# Altium integrated library Xilinx XC4000XL.IntLib: 450 symbols (part 30 of 58)
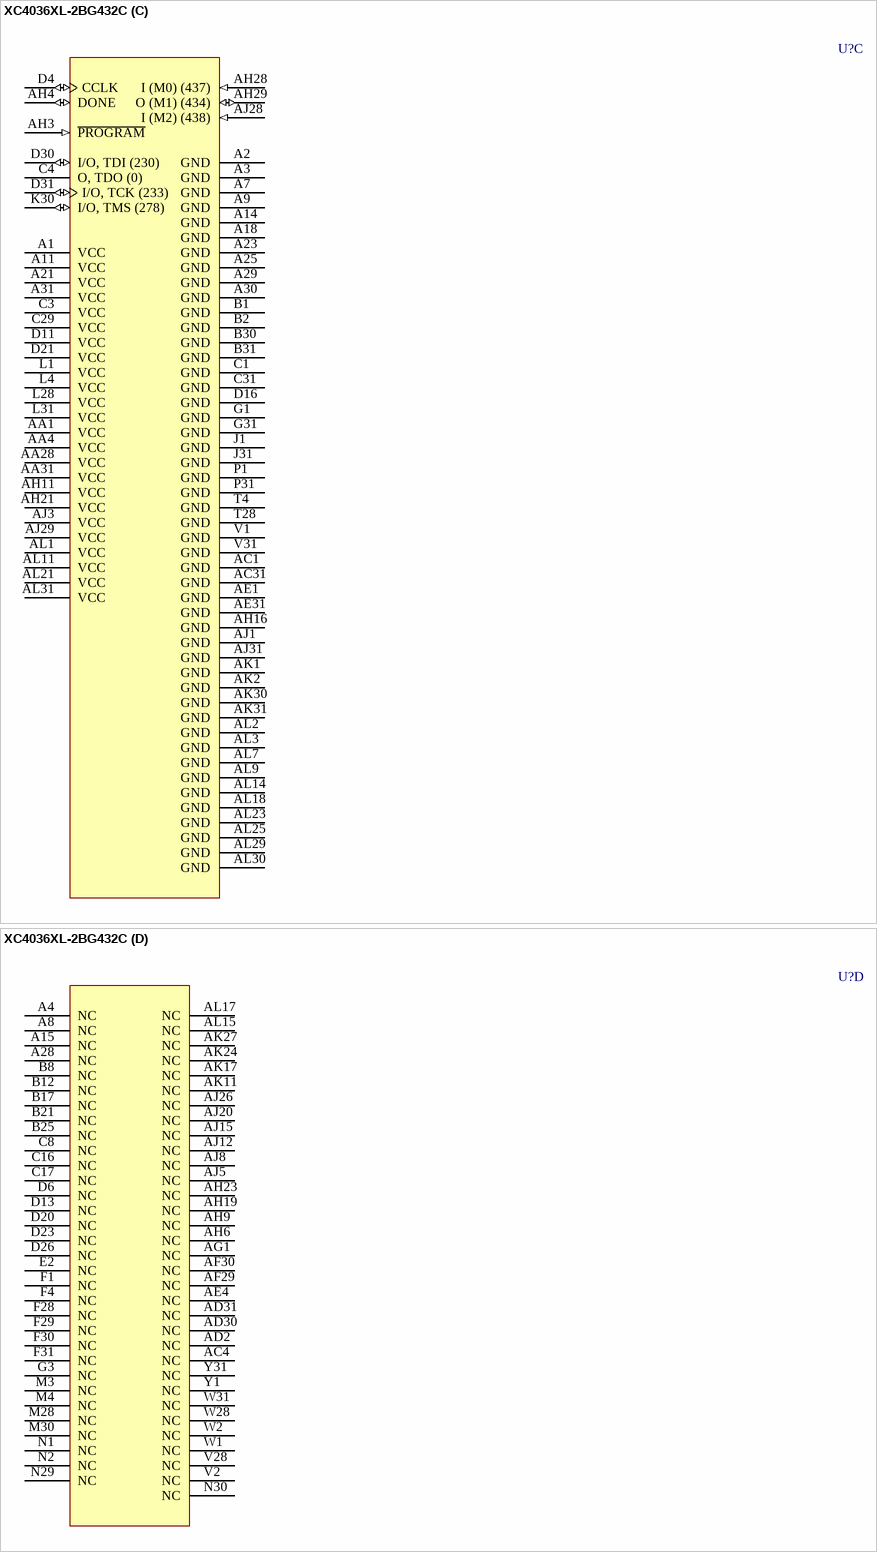
[diagram p427: symbol XC4036XL-2BG432C]

## XC4036XL-2BG432C
designator U?
XC4000XL FPGA, 288 I/Os, 432-Ball BGA, Speed Grade 2, Commercial Grade; Published: 28-Feb-2003; LatestRevisionDate: 13-Apr-2006; LatestRevisionNote: IPC-7351 Footprint Added.; DatasheetVersion: ver1.6, May-1999; PackageVersion: ver1.1, Apr-2001; PackageReference: BG432; Publisher: Altium Limited; PackageDescription: 432-Ball Metal Ball Grid Array (BG432); Supplier 1: Digi-Key; Supplier Part Number 1: XC4036XL-2BG432C-ND; Code_JEDEC: MO-192-BAU-1 (Depopulated); ComponentLink1Description: XC4000XL Datasheet; ComponentLink1URL: http://www.xilinx.com/support/documentation/data_sheets/4000.pdf; ComponentLink2Description: Discontinuation Notice; ComponentLink2URL: http://www.xilinx.com/support/documentation/customer_notices/pdn2004-21.pdf; ComponentLink3Description: BG432 Package Drawing; ComponentLink3URL: http://www.xilinx.com/support/documentation/package_specs/bg432.pdf; ComponentLink4Description: XC4000 Documents; ComponentLink4URL: http://www.xilinx.com/support/documentation/xc4000.htm; ComponentLink5Description: Xilinx.com Home; ComponentLink5URL: http://www.xilinx.com
footprint BG432 (BGA, 432-Leads, Body 40x40mm, Pitch 1.27mm)
part A pins: A5 I/O (CS1, A2) (20) (io), A6 I/O (29) (io), A10 I/O (59) (io), A12 I/O (77) (io), A13 I/O (A5) (89) (io), A16 I/O (A7) (107) (io), A17 I/O (A9) (113) (io), A19 I/O (125) (io), A20 I/O (137) (io), A22 I/O (149) (io), A24 I/O (161) (io), A26 I/O (176) (io), A27 I/O (188) (io), AA29 I/O (368) (io), AA30 I/O (365) (io), AB28 I/O (380) (io), AB29 I/O (377) (io), AB30 I/O (374) (io), AB31 I/O (371) (io), AC28 I/O (389) (io), AC29 I/O (386) (io), AC30 I/O (383) (io), AD28 I/O (395) (io), AD29 I/O (392) (io), AE28 I/O (407) (io), AE29 I/O (401) (io), AE30 I/O (398) (io), AF28 I/O (413) (io), AF31 I/O (404) (io), AG28 I/O (425) (io), AG29 I/O (419) (io), AG30 I/O (416) (io), AG31 I/O (410) (io), AH30 I/O (428) (io), AH31 I/O (422) (io), AJ30 I/O, GCK2 (431) (io), AK29 I/O, GCK3 (439) (io), B3 I/O (A0, ~{WS}) (2) (io), B4 I/O (8) (io), B5 I/O (14) (io), B6 I/O (26) (io), B7 I/O (38) (io), B9 I/O (50) (io), B10 I/O (56) (io), B11 I/O (68) (io), B13 I/O (83) (io), B14 I/O (92) (io), B15 I/O (A20) (101) (io), B16 I/O (A6) (104) (io), B18 I/O (122) (io), B19 I/O (A10) (128) (io), B20 I/O (140) (io), B22 I/O (152) (io), B23 I/O (158) (io), B24 I/O (170) (io), B26 I/O (A13) (185) (io), B27 I/O (197) (io), B28 I/O (203) (io), B29 I/O (209) (io), C5 I/O (11) (io), C6 I/O (17) (io), C7 I/O (35) (io), C9 I/O (47) (io), C10 I/O (53) (io), C11 I/O (62) (io), C12 I/O (71) (io), C13 I/O (74) (io), C14 I/O (A4) (86) (io), C15 I/O (A21) (98) (io), C18 I/O (A19) (116) (io), C19 I/O (A11) (131) (io), C20 I/O (143) (io), C21 I/O (146) (io), C22 I/O (155) (io), C23 I/O (167) (io), C24 I/O (173) (io), C25 I/O (179) (io), C26 I/O (194) (io), C27 I/O (200) (io), C28 I/O (A14) (212) (io), C30 I/O (A17) (221) (io), D7 I/O (A3) (23) (io), D8 I/O (32) (io), D9 I/O (41) (io), D10 I/O (44) (io), D12 I/O (65) (io), D14 I/O (80) (io), D15 I/O (95) (io), D17 I/O (A8) (110) (io), D18 I/O (A18) (119) (io), D19 I/O (134) (io), D22 I/O (164) (io), D24 I/O (A12) (182) (io), D25 I/O (191) (io), D27 I/O (206) (io), D28 I/O, GCK8 (A15) (215) (io), D29 I/O, GCK1 (A16) (218) (io), E28 I/O (224) (io), E29 I/O (227) (io), E30 I/O (236) (io), E31 I/O (239) (io), G28 I/O (242) (io), G29 I/O (245) (io), G30 I/O (254) (io), H28 I/O (248) (io), H29 I/O (251) (io), H30 I/O (257) (io), H31 I/O (266) (io), J28 I/O (260) (io), J29 I/O (263) (io), J30 I/O (269) (io), K28 I/O (272) (io), K29 I/O (275) (io), K31 I/O (281) (io), L29 I/O (284) (io), L30 I/O (287) (io), M29 I/O (290) (io), M31 I/O (293) (io), N28 I/O (299) (io), N31 I/O (296) (io), P28 I/O (305) (io), P29 I/O (308) (io), P30 I/O (302) (io), R28 I/O (317) (io), R29 I/O (320) (io), R30 I/O (314) (io), R31 I/O (311) (io), T29 I/O (329) (io), T30 I/O (326) (io), T31 I/O (323) (io), U28 I/O (338) (io), U29 I/O (341) (io), U30 I/O (335) (io), U31 I/O (332) (io), V29 I/O (347) (io), V30 I/O (344) (io), W29 I/O (353) (io), W30 I/O (350) (io), Y28 I/O (362) (io), Y29 I/O (359) (io), Y30 I/O (356) (io)
part B pins: AA2 I/O (D5) (721) (io), AA3 I/O (718) (io), AB1 I/O (715) (io), AB2 I/O (712) (io), AB3 I/O (709) (io), AB4 I/O (706) (io), AC2 I/O (703) (io), AC3 I/O (697) (io), AD1 I/O (700) (io), AD3 I/O (691) (io), AD4 I/O (688) (io), AE2 I/O (694) (io), AE3 I/O (679) (io), AF1 I/O (D6) (685) (io), AF2 I/O (682) (io), AF3 I/O (673) (io), AF4 I/O (670) (io), AG2 I/O (676) (io), AG3 I/O (661) (io), AG4 I/O, GCK5 (658) (io), AH1 I/O (667) (io), AH2 I/O (664) (io), AH5 I/O (646) (io), AH7 I/O (631) (io), AH8 I/O (622) (io), AH10 I/O (604) (io), AH12 I/O (583) (io), AH13 I/O (574) (io), AH14 I/O (559) (io), AH15 I/O (550) (io), AH17 I/O (535) (io), AH18 I/O (520) (io), AH20 I/O (505) (io), AH22 I/O (484) (io), AH24 I/O (469) (io), AH25 I/O (460) (io), AH26 I/O (~{LDC}) (454) (io), AH27 I/O (HDC) (442) (io), AJ2 I/O (D7) (655) (io), AJ4 I/O, GCK4 (652) (io), AJ6 I/O (634) (io), AJ7 I/O (619) (io), AJ9 I/O (607) (io), AJ10 I/O (595) (io), AJ11 I/O (586) (io), AJ13 I/O (571) (io), AJ14 I/O (556) (io), AJ16 I/O (541) (io), AJ17 I/O (538) (io), AJ18 I/O (526) (io), AJ19 I/O (514) (io), AJ21 I/O (502) (io), AJ22 I/O (493) (io), AJ23 I/O (487) (io), AJ24 I/O (478) (io), AJ25 I/O (472) (io), AJ27 I/O (448) (io), AK3 I/O (649) (io), AK4 I/O (643) (io), AK5 I/O (637) (io), AK6 I/O (625) (io), AK7 I/O (613) (io), AK8 I/O (610) (io), AK9 I/O (598) (io), AK10 I/O (592) (io), AK12 I/O (580) (io), AK13 I/O (568) (io), AK14 I/O (562) (io), AK15 I/O (553) (io), AK16 I/O (~{INIT}) (544) (io), AK18 I/O (532) (io), AK19 I/O (523) (io), AK20 I/O (511) (io), AK21 I/O (508) (io), AK22 I/O (496) (io), AK23 I/O (490) (io), AK25 I/O (475) (io), AK26 I/O (463) (io), AK28 I/O (445) (io), AL4 I/O (640) (io), AL5 I/O (628) (io), AL6 I/O (616) (io), AL8 I/O (601) (io), AL10 I/O (589) (io), AL12 I/O (577) (io), AL13 I/O (565) (io), AL16 I/O (547) (io), AL19 I/O (529) (io), AL20 I/O (517) (io), AL22 I/O (499) (io), AL24 I/O (481) (io), AL26 I/O (466) (io), AL27 I/O (457) (io), AL28 I/O (451) (io), C2 I/O (D0, DIN) (865) (io), D1 I/O (856) (io), D2 I/O (862) (io), D3 I/O, GCK6 (DOUT) (868) (io), D5 I/O, GCK7 (A1) (5) (io), E1 I/O (850) (io), E3 I/O (853) (io), E4 I/O (859) (io), F2 I/O (~{RCLK}, RDY/~{BUSY}) (844) (io), F3 I/O (847) (io), G2 I/O (838) (io), G4 I/O (D1) (841) (io), H1 I/O (826) (io), H2 I/O (829) (io), H3 I/O (832) (io), H4 I/O (835) (io), J2 I/O (817) (io), J3 I/O (820) (io), J4 I/O (823) (io), K1 I/O (805) (io), K2 I/O (808) (io), K3 I/O (811) (io), K4 I/O (814) (io), L2 I/O (D2) (799) (io), L3 I/O (802) (io), M1 I/O (793) (io), M2 I/O (796) (io), N3 I/O (787) (io), N4 I/O (790) (io), P2 I/O (778) (io), P3 I/O (781) (io), P4 I/O (784) (io), R1 I/O (~{RS}) (766) (io), R2 I/O (769) (io), R3 I/O (775) (io), R4 I/O (772) (io), T1 I/O (D4) (757) (io), T2 I/O (760) (io), T3 I/O (D3) (763) (io), U1 I/O (745) (io), U2 I/O (748) (io), U3 I/O (754) (io), U4 I/O (751) (io), V3 I/O (742) (io), V4 I/O (739) (io), W3 I/O (736) (io), W4 I/O (733) (io), Y2 I/O (~{CS0}) (724) (io), Y3 I/O (730) (io), Y4 I/O (727) (io)
part C pins: A1 VCC (power), A2 GND (power), A3 GND (power), A7 GND (power), A9 GND (power), A11 VCC (power), A14 GND (power), A18 GND (power), A21 VCC (power), A23 GND (power), A25 GND (power), A29 GND (power), A30 GND (power), A31 VCC (power), AA1 VCC (power), AA4 VCC (power), AA28 VCC (power), AA31 VCC (power), AC1 GND (power), AC31 GND (power), AE1 GND (power), AE31 GND (power), AH3 ~{PROGRAM} (in), AH4 DONE (io), AH11 VCC (power), AH16 GND (power), AH21 VCC (power), AH28 I (M0) (437) (in), AH29 O (M1) (434) (io), AJ1 GND (power), AJ3 VCC (power), AJ28 I (M2) (438) (in), AJ29 VCC (power), AJ31 GND (power), AK1 GND (power), AK2 GND (power), AK30 GND (power), AK31 GND (power), AL1 VCC (power), AL2 GND (power), AL3 GND (power), AL7 GND (power), AL9 GND (power), AL11 VCC (power), AL14 GND (power), AL18 GND (power), AL21 VCC (power), AL23 GND (power), AL25 GND (power), AL29 GND (power), AL30 GND (power), AL31 VCC (power), B1 GND (power), B2 GND (power), B30 GND (power), B31 GND (power), C1 GND (power), C3 VCC (power), C4 O, TDO (0) (hiz), C29 VCC (power), C31 GND (power), D4 CCLK (io), D11 VCC (power), D16 GND (power), D21 VCC (power), D30 I/O, TDI (230) (io), D31 I/O, TCK (233) (io), G1 GND (power), G31 GND (power), J1 GND (power), J31 GND (power), K30 I/O, TMS (278) (io), L1 VCC (power), L4 VCC (power), L28 VCC (power), L31 VCC (power), P1 GND (power), P31 GND (power), T4 GND (power), T28 GND (power), V1 GND (power), V31 GND (power)
part D pins: A4 NC, A8 NC, A15 NC, A28 NC, AC4 NC, AD2 NC, AD30 NC, AD31 NC, AE4 NC, AF29 NC, AF30 NC, AG1 NC, AH6 NC, AH9 NC, AH19 NC, AH23 NC, AJ5 NC, AJ8 NC, AJ12 NC, AJ15 NC, AJ20 NC, AJ26 NC, AK11 NC, AK17 NC, AK24 NC, AK27 NC, AL15 NC, AL17 NC, B8 NC, B12 NC, B17 NC, B21 NC, B25 NC, C8 NC, C16 NC, C17 NC, D6 NC, D13 NC, D20 NC, D23 NC, D26 NC, E2 NC, F1 NC, F4 NC, F28 NC, F29 NC, F30 NC, F31 NC, G3 NC, M3 NC, M4 NC, M28 NC, M30 NC, N1 NC, N2 NC, N29 NC, N30 NC, V2 NC, V28 NC, W1 NC, W2 NC, W28 NC, W31 NC, Y1 NC, Y31 NC

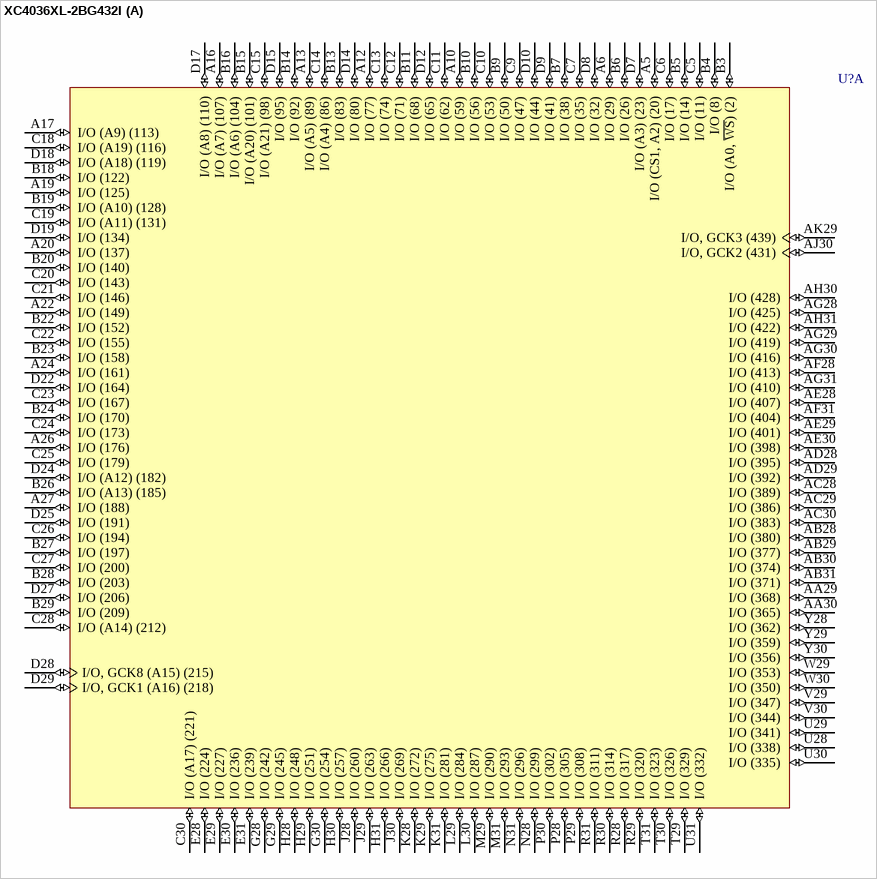
[diagram p274: symbol XC4036XL-2BG432I]

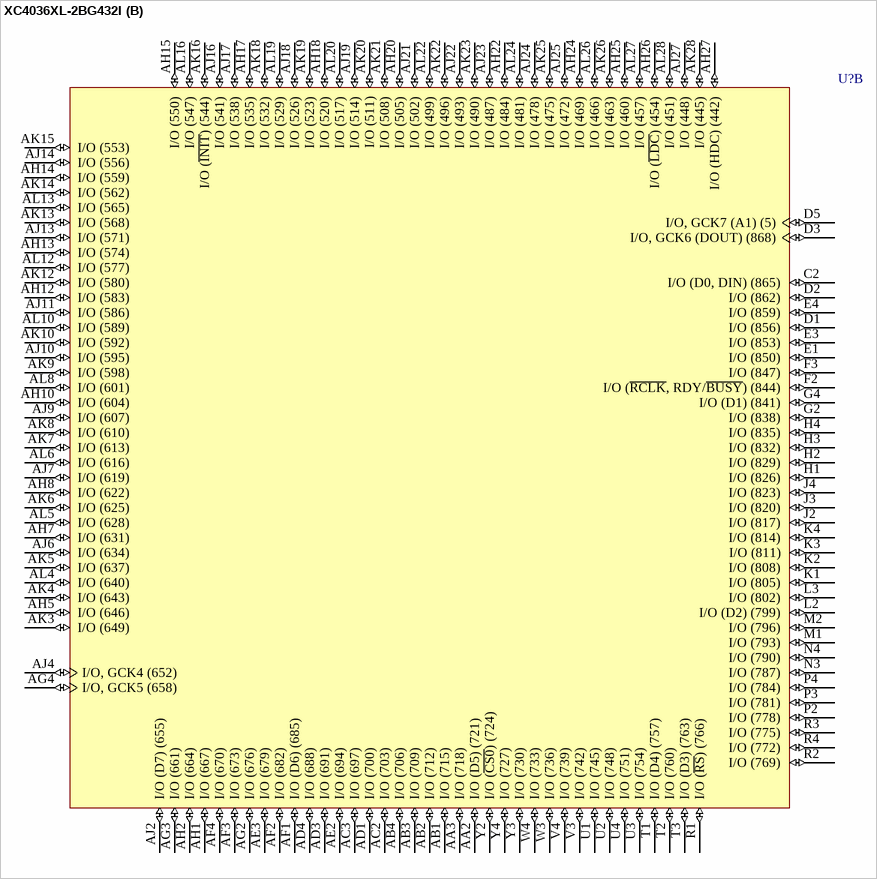
[diagram p275: symbol XC4036XL-2BG432I]

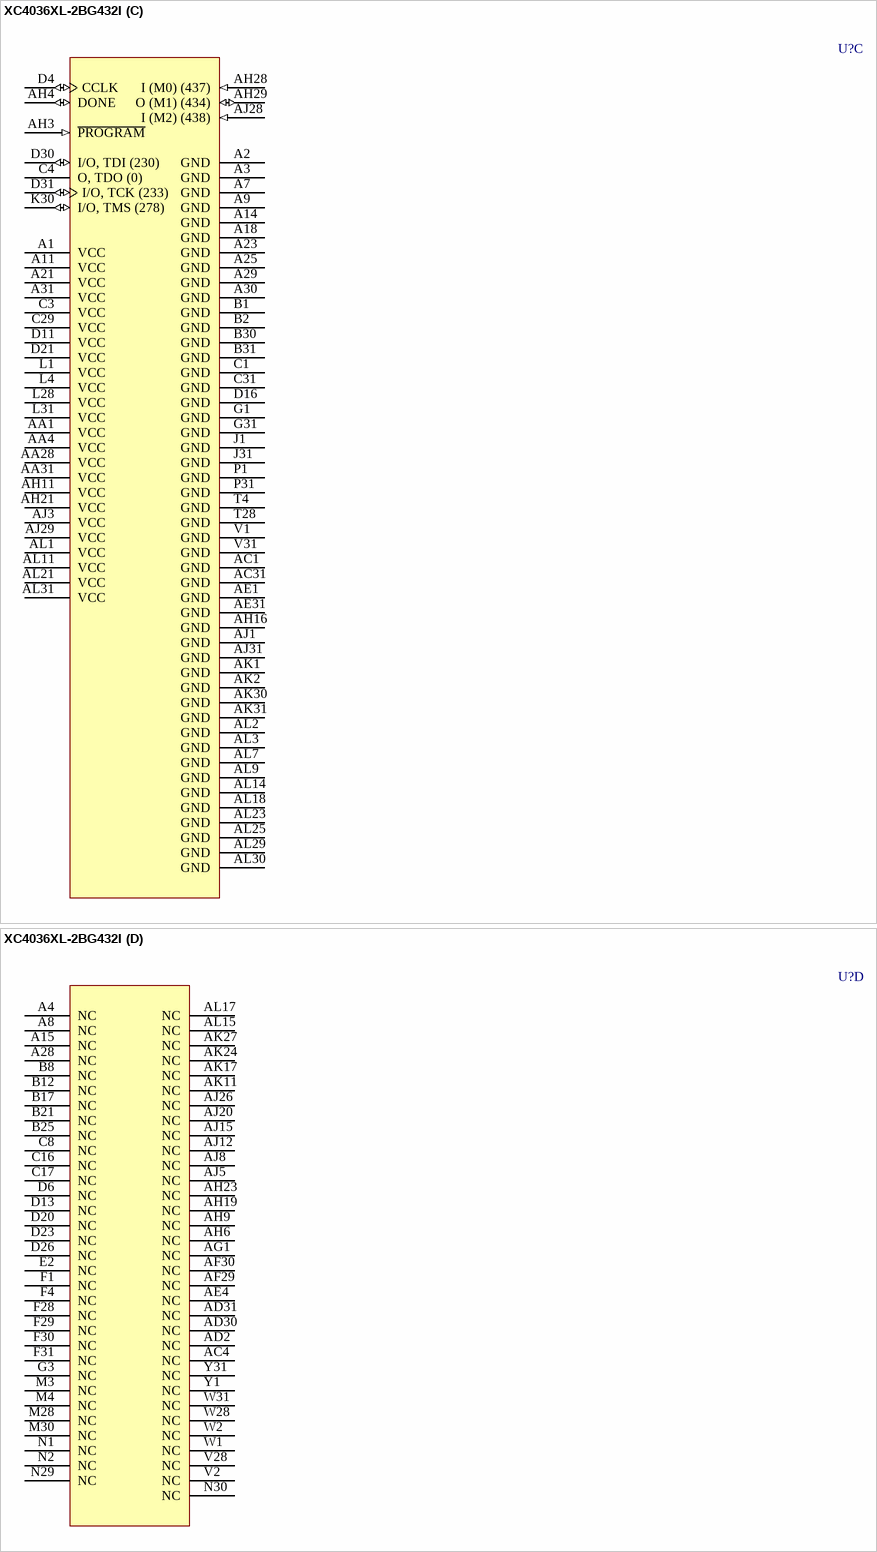
[diagram p276: symbol XC4036XL-2BG432I]

## XC4036XL-2BG432I
designator U?
XC4000XL FPGA, 288 I/Os, 432-Ball BGA, Speed Grade 2, Industrial Grade; Published: 28-Feb-2003; LatestRevisionDate: 13-Apr-2006; LatestRevisionNote: IPC-7351 Footprint Added.; DatasheetVersion: ver1.6, May-1999; PackageVersion: ver1.1, Apr-2001; PackageReference: BG432; Publisher: Altium Limited; PackageDescription: 432-Ball Metal Ball Grid Array (BG432); Supplier 1: Digi-Key; Supplier Part Number 1: XC4036XL-2BG432I-ND; Code_JEDEC: MO-192-BAU-1 (Depopulated); ComponentLink1Description: XC4000XL Datasheet; ComponentLink1URL: http://www.xilinx.com/support/documentation/data_sheets/4000.pdf; ComponentLink2Description: Discontinuation Notice; ComponentLink2URL: http://www.xilinx.com/support/documentation/customer_notices/pdn2004-21.pdf; ComponentLink3Description: BG432 Package Drawing; ComponentLink3URL: http://www.xilinx.com/support/documentation/package_specs/bg432.pdf; ComponentLink4Description: XC4000 Documents; ComponentLink4URL: http://www.xilinx.com/support/documentation/xc4000.htm; ComponentLink5Description: Xilinx.com Home; ComponentLink5URL: http://www.xilinx.com
footprint BG432 (BGA, 432-Leads, Body 40x40mm, Pitch 1.27mm)
part A pins: A5 I/O (CS1, A2) (20) (io), A6 I/O (29) (io), A10 I/O (59) (io), A12 I/O (77) (io), A13 I/O (A5) (89) (io), A16 I/O (A7) (107) (io), A17 I/O (A9) (113) (io), A19 I/O (125) (io), A20 I/O (137) (io), A22 I/O (149) (io), A24 I/O (161) (io), A26 I/O (176) (io), A27 I/O (188) (io), AA29 I/O (368) (io), AA30 I/O (365) (io), AB28 I/O (380) (io), AB29 I/O (377) (io), AB30 I/O (374) (io), AB31 I/O (371) (io), AC28 I/O (389) (io), AC29 I/O (386) (io), AC30 I/O (383) (io), AD28 I/O (395) (io), AD29 I/O (392) (io), AE28 I/O (407) (io), AE29 I/O (401) (io), AE30 I/O (398) (io), AF28 I/O (413) (io), AF31 I/O (404) (io), AG28 I/O (425) (io), AG29 I/O (419) (io), AG30 I/O (416) (io), AG31 I/O (410) (io), AH30 I/O (428) (io), AH31 I/O (422) (io), AJ30 I/O, GCK2 (431) (io), AK29 I/O, GCK3 (439) (io), B3 I/O (A0, ~{WS}) (2) (io), B4 I/O (8) (io), B5 I/O (14) (io), B6 I/O (26) (io), B7 I/O (38) (io), B9 I/O (50) (io), B10 I/O (56) (io), B11 I/O (68) (io), B13 I/O (83) (io), B14 I/O (92) (io), B15 I/O (A20) (101) (io), B16 I/O (A6) (104) (io), B18 I/O (122) (io), B19 I/O (A10) (128) (io), B20 I/O (140) (io), B22 I/O (152) (io), B23 I/O (158) (io), B24 I/O (170) (io), B26 I/O (A13) (185) (io), B27 I/O (197) (io), B28 I/O (203) (io), B29 I/O (209) (io), C5 I/O (11) (io), C6 I/O (17) (io), C7 I/O (35) (io), C9 I/O (47) (io), C10 I/O (53) (io), C11 I/O (62) (io), C12 I/O (71) (io), C13 I/O (74) (io), C14 I/O (A4) (86) (io), C15 I/O (A21) (98) (io), C18 I/O (A19) (116) (io), C19 I/O (A11) (131) (io), C20 I/O (143) (io), C21 I/O (146) (io), C22 I/O (155) (io), C23 I/O (167) (io), C24 I/O (173) (io), C25 I/O (179) (io), C26 I/O (194) (io), C27 I/O (200) (io), C28 I/O (A14) (212) (io), C30 I/O (A17) (221) (io), D7 I/O (A3) (23) (io), D8 I/O (32) (io), D9 I/O (41) (io), D10 I/O (44) (io), D12 I/O (65) (io), D14 I/O (80) (io), D15 I/O (95) (io), D17 I/O (A8) (110) (io), D18 I/O (A18) (119) (io), D19 I/O (134) (io), D22 I/O (164) (io), D24 I/O (A12) (182) (io), D25 I/O (191) (io), D27 I/O (206) (io), D28 I/O, GCK8 (A15) (215) (io), D29 I/O, GCK1 (A16) (218) (io), E28 I/O (224) (io), E29 I/O (227) (io), E30 I/O (236) (io), E31 I/O (239) (io), G28 I/O (242) (io), G29 I/O (245) (io), G30 I/O (254) (io), H28 I/O (248) (io), H29 I/O (251) (io), H30 I/O (257) (io), H31 I/O (266) (io), J28 I/O (260) (io), J29 I/O (263) (io), J30 I/O (269) (io), K28 I/O (272) (io), K29 I/O (275) (io), K31 I/O (281) (io), L29 I/O (284) (io), L30 I/O (287) (io), M29 I/O (290) (io), M31 I/O (293) (io), N28 I/O (299) (io), N31 I/O (296) (io), P28 I/O (305) (io), P29 I/O (308) (io), P30 I/O (302) (io), R28 I/O (317) (io), R29 I/O (320) (io), R30 I/O (314) (io), R31 I/O (311) (io), T29 I/O (329) (io), T30 I/O (326) (io), T31 I/O (323) (io), U28 I/O (338) (io), U29 I/O (341) (io), U30 I/O (335) (io), U31 I/O (332) (io), V29 I/O (347) (io), V30 I/O (344) (io), W29 I/O (353) (io), W30 I/O (350) (io), Y28 I/O (362) (io), Y29 I/O (359) (io), Y30 I/O (356) (io)
part B pins: AA2 I/O (D5) (721) (io), AA3 I/O (718) (io), AB1 I/O (715) (io), AB2 I/O (712) (io), AB3 I/O (709) (io), AB4 I/O (706) (io), AC2 I/O (703) (io), AC3 I/O (697) (io), AD1 I/O (700) (io), AD3 I/O (691) (io), AD4 I/O (688) (io), AE2 I/O (694) (io), AE3 I/O (679) (io), AF1 I/O (D6) (685) (io), AF2 I/O (682) (io), AF3 I/O (673) (io), AF4 I/O (670) (io), AG2 I/O (676) (io), AG3 I/O (661) (io), AG4 I/O, GCK5 (658) (io), AH1 I/O (667) (io), AH2 I/O (664) (io), AH5 I/O (646) (io), AH7 I/O (631) (io), AH8 I/O (622) (io), AH10 I/O (604) (io), AH12 I/O (583) (io), AH13 I/O (574) (io), AH14 I/O (559) (io), AH15 I/O (550) (io), AH17 I/O (535) (io), AH18 I/O (520) (io), AH20 I/O (505) (io), AH22 I/O (484) (io), AH24 I/O (469) (io), AH25 I/O (460) (io), AH26 I/O (~{LDC}) (454) (io), AH27 I/O (HDC) (442) (io), AJ2 I/O (D7) (655) (io), AJ4 I/O, GCK4 (652) (io), AJ6 I/O (634) (io), AJ7 I/O (619) (io), AJ9 I/O (607) (io), AJ10 I/O (595) (io), AJ11 I/O (586) (io), AJ13 I/O (571) (io), AJ14 I/O (556) (io), AJ16 I/O (541) (io), AJ17 I/O (538) (io), AJ18 I/O (526) (io), AJ19 I/O (514) (io), AJ21 I/O (502) (io), AJ22 I/O (493) (io), AJ23 I/O (487) (io), AJ24 I/O (478) (io), AJ25 I/O (472) (io), AJ27 I/O (448) (io), AK3 I/O (649) (io), AK4 I/O (643) (io), AK5 I/O (637) (io), AK6 I/O (625) (io), AK7 I/O (613) (io), AK8 I/O (610) (io), AK9 I/O (598) (io), AK10 I/O (592) (io), AK12 I/O (580) (io), AK13 I/O (568) (io), AK14 I/O (562) (io), AK15 I/O (553) (io), AK16 I/O (~{INIT}) (544) (io), AK18 I/O (532) (io), AK19 I/O (523) (io), AK20 I/O (511) (io), AK21 I/O (508) (io), AK22 I/O (496) (io), AK23 I/O (490) (io), AK25 I/O (475) (io), AK26 I/O (463) (io), AK28 I/O (445) (io), AL4 I/O (640) (io), AL5 I/O (628) (io), AL6 I/O (616) (io), AL8 I/O (601) (io), AL10 I/O (589) (io), AL12 I/O (577) (io), AL13 I/O (565) (io), AL16 I/O (547) (io), AL19 I/O (529) (io), AL20 I/O (517) (io), AL22 I/O (499) (io), AL24 I/O (481) (io), AL26 I/O (466) (io), AL27 I/O (457) (io), AL28 I/O (451) (io), C2 I/O (D0, DIN) (865) (io), D1 I/O (856) (io), D2 I/O (862) (io), D3 I/O, GCK6 (DOUT) (868) (io), D5 I/O, GCK7 (A1) (5) (io), E1 I/O (850) (io), E3 I/O (853) (io), E4 I/O (859) (io), F2 I/O (~{RCLK}, RDY/~{BUSY}) (844) (io), F3 I/O (847) (io), G2 I/O (838) (io), G4 I/O (D1) (841) (io), H1 I/O (826) (io), H2 I/O (829) (io), H3 I/O (832) (io), H4 I/O (835) (io), J2 I/O (817) (io), J3 I/O (820) (io), J4 I/O (823) (io), K1 I/O (805) (io), K2 I/O (808) (io), K3 I/O (811) (io), K4 I/O (814) (io), L2 I/O (D2) (799) (io), L3 I/O (802) (io), M1 I/O (793) (io), M2 I/O (796) (io), N3 I/O (787) (io), N4 I/O (790) (io), P2 I/O (778) (io), P3 I/O (781) (io), P4 I/O (784) (io), R1 I/O (~{RS}) (766) (io), R2 I/O (769) (io), R3 I/O (775) (io), R4 I/O (772) (io), T1 I/O (D4) (757) (io), T2 I/O (760) (io), T3 I/O (D3) (763) (io), U1 I/O (745) (io), U2 I/O (748) (io), U3 I/O (754) (io), U4 I/O (751) (io), V3 I/O (742) (io), V4 I/O (739) (io), W3 I/O (736) (io), W4 I/O (733) (io), Y2 I/O (~{CS0}) (724) (io), Y3 I/O (730) (io), Y4 I/O (727) (io)
part C pins: A1 VCC (power), A2 GND (power), A3 GND (power), A7 GND (power), A9 GND (power), A11 VCC (power), A14 GND (power), A18 GND (power), A21 VCC (power), A23 GND (power), A25 GND (power), A29 GND (power), A30 GND (power), A31 VCC (power), AA1 VCC (power), AA4 VCC (power), AA28 VCC (power), AA31 VCC (power), AC1 GND (power), AC31 GND (power), AE1 GND (power), AE31 GND (power), AH3 ~{PROGRAM} (in), AH4 DONE (io), AH11 VCC (power), AH16 GND (power), AH21 VCC (power), AH28 I (M0) (437) (in), AH29 O (M1) (434) (io), AJ1 GND (power), AJ3 VCC (power), AJ28 I (M2) (438) (in), AJ29 VCC (power), AJ31 GND (power), AK1 GND (power), AK2 GND (power), AK30 GND (power), AK31 GND (power), AL1 VCC (power), AL2 GND (power), AL3 GND (power), AL7 GND (power), AL9 GND (power), AL11 VCC (power), AL14 GND (power), AL18 GND (power), AL21 VCC (power), AL23 GND (power), AL25 GND (power), AL29 GND (power), AL30 GND (power), AL31 VCC (power), B1 GND (power), B2 GND (power), B30 GND (power), B31 GND (power), C1 GND (power), C3 VCC (power), C4 O, TDO (0) (hiz), C29 VCC (power), C31 GND (power), D4 CCLK (io), D11 VCC (power), D16 GND (power), D21 VCC (power), D30 I/O, TDI (230) (io), D31 I/O, TCK (233) (io), G1 GND (power), G31 GND (power), J1 GND (power), J31 GND (power), K30 I/O, TMS (278) (io), L1 VCC (power), L4 VCC (power), L28 VCC (power), L31 VCC (power), P1 GND (power), P31 GND (power), T4 GND (power), T28 GND (power), V1 GND (power), V31 GND (power)
part D pins: A4 NC, A8 NC, A15 NC, A28 NC, AC4 NC, AD2 NC, AD30 NC, AD31 NC, AE4 NC, AF29 NC, AF30 NC, AG1 NC, AH6 NC, AH9 NC, AH19 NC, AH23 NC, AJ5 NC, AJ8 NC, AJ12 NC, AJ15 NC, AJ20 NC, AJ26 NC, AK11 NC, AK17 NC, AK24 NC, AK27 NC, AL15 NC, AL17 NC, B8 NC, B12 NC, B17 NC, B21 NC, B25 NC, C8 NC, C16 NC, C17 NC, D6 NC, D13 NC, D20 NC, D23 NC, D26 NC, E2 NC, F1 NC, F4 NC, F28 NC, F29 NC, F30 NC, F31 NC, G3 NC, M3 NC, M4 NC, M28 NC, M30 NC, N1 NC, N2 NC, N29 NC, N30 NC, V2 NC, V28 NC, W1 NC, W2 NC, W28 NC, W31 NC, Y1 NC, Y31 NC

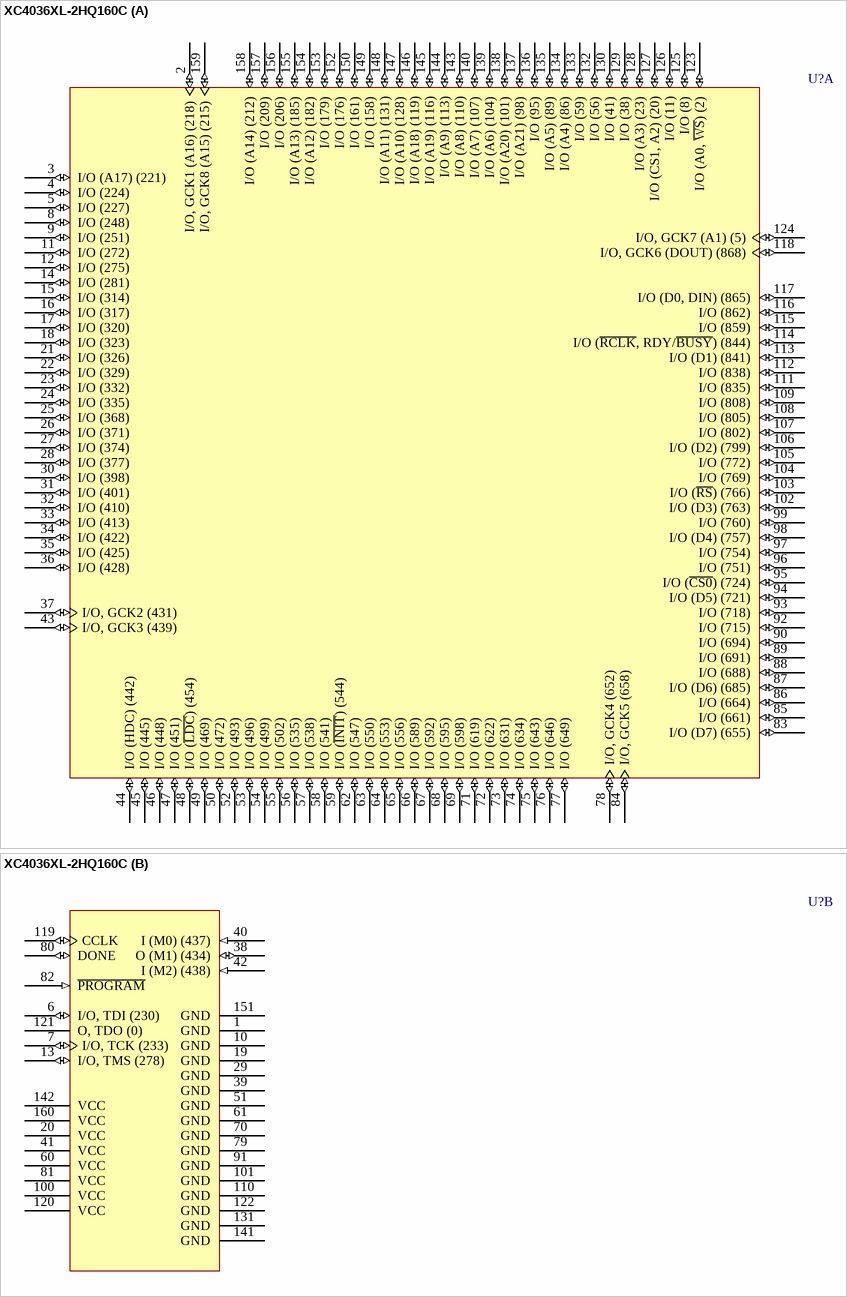
[diagram p277: symbol XC4036XL-2HQ160C]

## XC4036XL-2HQ160C
designator U?
XC4000XL FPGA, 129 I/Os, 160-Pin HQFP, Speed Grade 2, Commercial Grade; Published: 28-Feb-2003; LatestRevisionDate: 13-Apr-2006; LatestRevisionNote: IPC-7351 Footprint Added.; DatasheetVersion: ver1.6, May-1999; PackageVersion: ver1.2, Jun-2004; PackageReference: HQ160; Publisher: Altium Limited; PackageDescription: 160-Pin Heat Sink Quad Flat Pack (HQ160); Supplier 1: Digi-Key; Supplier Part Number 1: XC4036XL-2HQ160C-ND; Code_JEDEC: MS-022-DD1; Code_IPC: QFP65P3120X3120-160; ComponentLink1Description: XC4000XL Datasheet; ComponentLink1URL: http://www.xilinx.com/support/documentation/data_sheets/4000.pdf; ComponentLink2Description: Discontinuation Notice; ComponentLink2URL: http://www.xilinx.com/support/documentation/customer_notices/pdn2004-21.pdf; ComponentLink3Description: HQ160 Package Drawing; ComponentLink3URL: http://www.xilinx.com/support/documentation/package_specs/hq160.pdf; ComponentLink4Description: XC4000 Documents; ComponentLink4URL: http://www.xilinx.com/support/documentation/xc4000.htm; ComponentLink5Description: Xilinx.com Home; ComponentLink5URL: http://www.xilinx.com
footprint HQ160_N (QFP, 160-Leads, Body 28x28mm, Pitch 0.65mm, IPC Medium Density)
footprint HQ160_L (QFP, 160-Leads, Body 28x28mm, Pitch 0.65mm, IPC High Density)
footprint HQ160_M (QFP, 160-Leads, Body 28x28mm, Pitch 0.65mm, IPC Low Density)
part A pins: 2 I/O, GCK1 (A16) (218) (io), 3 I/O (A17) (221) (io), 4 I/O (224) (io), 5 I/O (227) (io), 8 I/O (248) (io), 9 I/O (251) (io), 11 I/O (272) (io), 12 I/O (275) (io), 14 I/O (281) (io), 15 I/O (314) (io), 16 I/O (317) (io), 17 I/O (320) (io), 18 I/O (323) (io), 21 I/O (326) (io), 22 I/O (329) (io), 23 I/O (332) (io), 24 I/O (335) (io), 25 I/O (368) (io), 26 I/O (371) (io), 27 I/O (374) (io), 28 I/O (377) (io), 30 I/O (398) (io), 31 I/O (401) (io), 32 I/O (410) (io), 33 I/O (413) (io), 34 I/O (422) (io), 35 I/O (425) (io), 36 I/O (428) (io), 37 I/O, GCK2 (431) (io), 43 I/O, GCK3 (439) (io), 44 I/O (HDC) (442) (io), 45 I/O (445) (io), 46 I/O (448) (io), 47 I/O (451) (io), 48 I/O (~{LDC}) (454) (io), 49 I/O (469) (io), 50 I/O (472) (io), 52 I/O (493) (io), 53 I/O (496) (io), 54 I/O (499) (io), 55 I/O (502) (io), 56 I/O (535) (io), 57 I/O (538) (io), 58 I/O (541) (io), 59 I/O (~{INIT}) (544) (io), 62 I/O (547) (io), 63 I/O (550) (io), 64 I/O (553) (io), 65 I/O (556) (io), 66 I/O (589) (io), 67 I/O (592) (io), 68 I/O (595) (io), 69 I/O (598) (io), 71 I/O (619) (io), 72 I/O (622) (io), 73 I/O (631) (io), 74 I/O (634) (io), 75 I/O (643) (io), 76 I/O (646) (io), 77 I/O (649) (io), 78 I/O, GCK4 (652) (io), 83 I/O (D7) (655) (io), 84 I/O, GCK5 (658) (io), 85 I/O (661) (io), 86 I/O (664) (io), 87 I/O (D6) (685) (io), 88 I/O (688) (io), 89 I/O (691) (io), 90 I/O (694) (io), 92 I/O (715) (io), 93 I/O (718) (io), 94 I/O (D5) (721) (io), 95 I/O (~{CS0}) (724) (io), 96 I/O (751) (io), 97 I/O (754) (io), 98 I/O (D4) (757) (io), 99 I/O (760) (io), 102 I/O (D3) (763) (io), 103 I/O (~{RS}) (766) (io), 104 I/O (769) (io), 105 I/O (772) (io), 106 I/O (D2) (799) (io), 107 I/O (802) (io), 108 I/O (805) (io), 109 I/O (808) (io), 111 I/O (835) (io), 112 I/O (838) (io), 113 I/O (D1) (841) (io), 114 I/O (~{RCLK}, RDY/~{BUSY}) (844) (io), 115 I/O (859) (io), 116 I/O (862) (io), 117 I/O (D0, DIN) (865) (io), 118 I/O, GCK6 (DOUT) (868) (io), 123 I/O (A0, ~{WS}) (2) (io), 124 I/O, GCK7 (A1) (5) (io), 125 I/O (8) (io), 126 I/O (11) (io), 127 I/O (CS1, A2) (20) (io), 128 I/O (A3) (23) (io), 129 I/O (38) (io), 130 I/O (41) (io), 132 I/O (56) (io), 133 I/O (59) (io), 134 I/O (A4) (86) (io), 135 I/O (A5) (89) (io), 136 I/O (95) (io), 137 I/O (A21) (98) (io), 138 I/O (A20) (101) (io), 139 I/O (A6) (104) (io), 140 I/O (A7) (107) (io), 143 I/O (A8) (110) (io), 144 I/O (A9) (113) (io), 145 I/O (A19) (116) (io), 146 I/O (A18) (119) (io), 147 I/O (A10) (128) (io), 148 I/O (A11) (131) (io), 149 I/O (158) (io), 150 I/O (161) (io), 152 I/O (176) (io), 153 I/O (179) (io), 154 I/O (A12) (182) (io), 155 I/O (A13) (185) (io), 156 I/O (206) (io), 157 I/O (209) (io), 158 I/O (A14) (212) (io), 159 I/O, GCK8 (A15) (215) (io)
part B pins: 1 GND (power), 6 I/O, TDI (230) (io), 7 I/O, TCK (233) (io), 10 GND (power), 13 I/O, TMS (278) (io), 19 GND (power), 20 VCC (power), 29 GND (power), 38 O (M1) (434) (io), 39 GND (power), 40 I (M0) (437) (in), 41 VCC (power), 42 I (M2) (438) (in), 51 GND (power), 60 VCC (power), 61 GND (power), 70 GND (power), 79 GND (power), 80 DONE (io), 81 VCC (power), 82 ~{PROGRAM} (in), 91 GND (power), 100 VCC (power), 101 GND (power), 110 GND (power), 119 CCLK (io), 120 VCC (power), 121 O, TDO (0) (hiz), 122 GND (power), 131 GND (power), 141 GND (power), 142 VCC (power), 151 GND (power), 160 VCC (power)

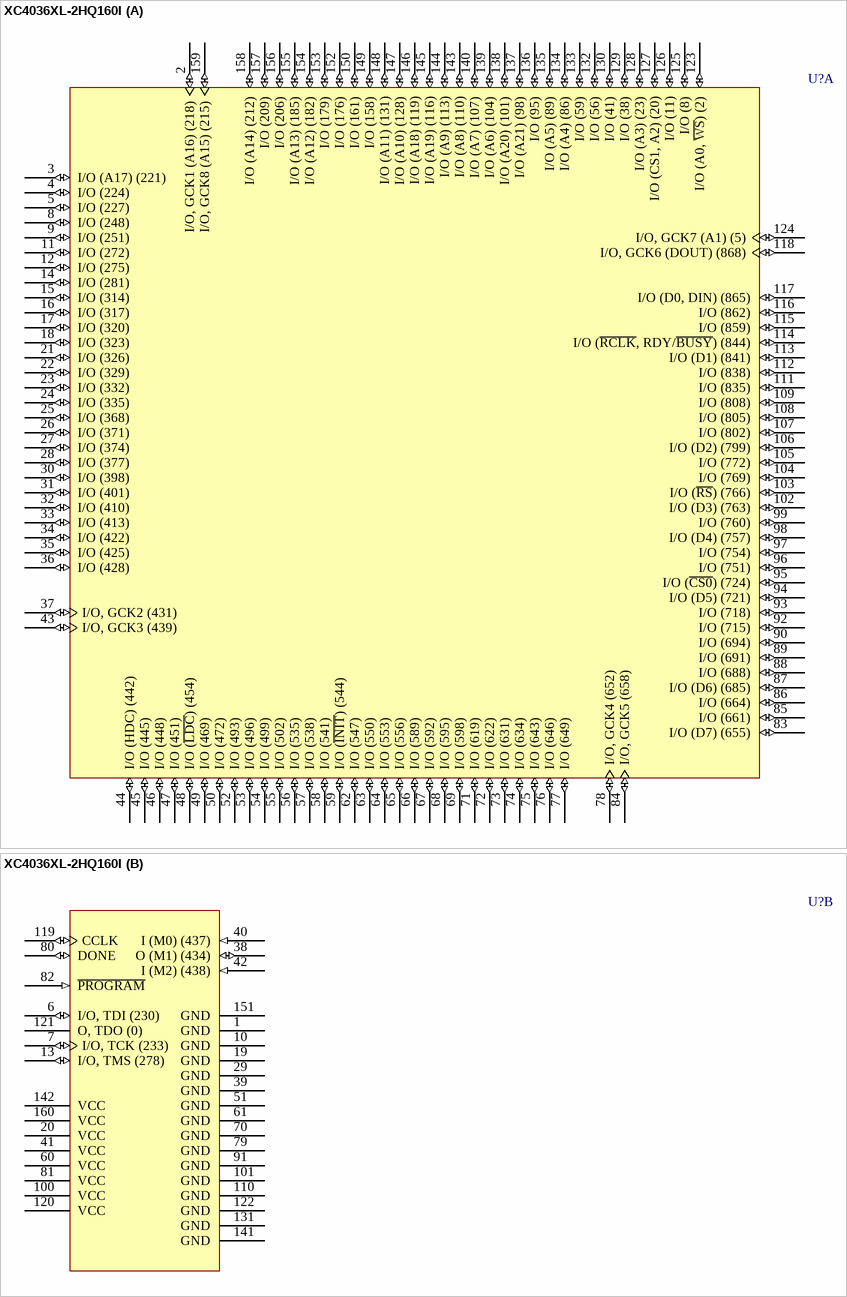
[diagram p278: symbol XC4036XL-2HQ160I]

## XC4036XL-2HQ160I
designator U?
XC4000XL FPGA, 129 I/Os, 160-Pin HQFP, Speed Grade 2, Industrial Grade; Published: 28-Feb-2003; LatestRevisionDate: 13-Apr-2006; LatestRevisionNote: IPC-7351 Footprint Added.; DatasheetVersion: ver1.6, May-1999; PackageVersion: ver1.2, Jun-2004; PackageReference: HQ160; Publisher: Altium Limited; PackageDescription: 160-Pin Heat Sink Quad Flat Pack (HQ160); Supplier 1: Digi-Key; Supplier Part Number 1: XC4036XL-2HQ160I-ND; Code_JEDEC: MS-022-DD1; Code_IPC: QFP65P3120X3120-160; ComponentLink1Description: XC4000XL Datasheet; ComponentLink1URL: http://www.xilinx.com/support/documentation/data_sheets/4000.pdf; ComponentLink2Description: Discontinuation Notice; ComponentLink2URL: http://www.xilinx.com/support/documentation/customer_notices/pdn2004-21.pdf; ComponentLink3Description: HQ160 Package Drawing; ComponentLink3URL: http://www.xilinx.com/support/documentation/package_specs/hq160.pdf; ComponentLink4Description: XC4000 Documents; ComponentLink4URL: http://www.xilinx.com/support/documentation/xc4000.htm; ComponentLink5Description: Xilinx.com Home; ComponentLink5URL: http://www.xilinx.com
footprint HQ160_N (QFP, 160-Leads, Body 28x28mm, Pitch 0.65mm, IPC Medium Density)
footprint HQ160_L (QFP, 160-Leads, Body 28x28mm, Pitch 0.65mm, IPC High Density)
footprint HQ160_M (QFP, 160-Leads, Body 28x28mm, Pitch 0.65mm, IPC Low Density)
part A pins: 2 I/O, GCK1 (A16) (218) (io), 3 I/O (A17) (221) (io), 4 I/O (224) (io), 5 I/O (227) (io), 8 I/O (248) (io), 9 I/O (251) (io), 11 I/O (272) (io), 12 I/O (275) (io), 14 I/O (281) (io), 15 I/O (314) (io), 16 I/O (317) (io), 17 I/O (320) (io), 18 I/O (323) (io), 21 I/O (326) (io), 22 I/O (329) (io), 23 I/O (332) (io), 24 I/O (335) (io), 25 I/O (368) (io), 26 I/O (371) (io), 27 I/O (374) (io), 28 I/O (377) (io), 30 I/O (398) (io), 31 I/O (401) (io), 32 I/O (410) (io), 33 I/O (413) (io), 34 I/O (422) (io), 35 I/O (425) (io), 36 I/O (428) (io), 37 I/O, GCK2 (431) (io), 43 I/O, GCK3 (439) (io), 44 I/O (HDC) (442) (io), 45 I/O (445) (io), 46 I/O (448) (io), 47 I/O (451) (io), 48 I/O (~{LDC}) (454) (io), 49 I/O (469) (io), 50 I/O (472) (io), 52 I/O (493) (io), 53 I/O (496) (io), 54 I/O (499) (io), 55 I/O (502) (io), 56 I/O (535) (io), 57 I/O (538) (io), 58 I/O (541) (io), 59 I/O (~{INIT}) (544) (io), 62 I/O (547) (io), 63 I/O (550) (io), 64 I/O (553) (io), 65 I/O (556) (io), 66 I/O (589) (io), 67 I/O (592) (io), 68 I/O (595) (io), 69 I/O (598) (io), 71 I/O (619) (io), 72 I/O (622) (io), 73 I/O (631) (io), 74 I/O (634) (io), 75 I/O (643) (io), 76 I/O (646) (io), 77 I/O (649) (io), 78 I/O, GCK4 (652) (io), 83 I/O (D7) (655) (io), 84 I/O, GCK5 (658) (io), 85 I/O (661) (io), 86 I/O (664) (io), 87 I/O (D6) (685) (io), 88 I/O (688) (io), 89 I/O (691) (io), 90 I/O (694) (io), 92 I/O (715) (io), 93 I/O (718) (io), 94 I/O (D5) (721) (io), 95 I/O (~{CS0}) (724) (io), 96 I/O (751) (io), 97 I/O (754) (io), 98 I/O (D4) (757) (io), 99 I/O (760) (io), 102 I/O (D3) (763) (io), 103 I/O (~{RS}) (766) (io), 104 I/O (769) (io), 105 I/O (772) (io), 106 I/O (D2) (799) (io), 107 I/O (802) (io), 108 I/O (805) (io), 109 I/O (808) (io), 111 I/O (835) (io), 112 I/O (838) (io), 113 I/O (D1) (841) (io), 114 I/O (~{RCLK}, RDY/~{BUSY}) (844) (io), 115 I/O (859) (io), 116 I/O (862) (io), 117 I/O (D0, DIN) (865) (io), 118 I/O, GCK6 (DOUT) (868) (io), 123 I/O (A0, ~{WS}) (2) (io), 124 I/O, GCK7 (A1) (5) (io), 125 I/O (8) (io), 126 I/O (11) (io), 127 I/O (CS1, A2) (20) (io), 128 I/O (A3) (23) (io), 129 I/O (38) (io), 130 I/O (41) (io), 132 I/O (56) (io), 133 I/O (59) (io), 134 I/O (A4) (86) (io), 135 I/O (A5) (89) (io), 136 I/O (95) (io), 137 I/O (A21) (98) (io), 138 I/O (A20) (101) (io), 139 I/O (A6) (104) (io), 140 I/O (A7) (107) (io), 143 I/O (A8) (110) (io), 144 I/O (A9) (113) (io), 145 I/O (A19) (116) (io), 146 I/O (A18) (119) (io), 147 I/O (A10) (128) (io), 148 I/O (A11) (131) (io), 149 I/O (158) (io), 150 I/O (161) (io), 152 I/O (176) (io), 153 I/O (179) (io), 154 I/O (A12) (182) (io), 155 I/O (A13) (185) (io), 156 I/O (206) (io), 157 I/O (209) (io), 158 I/O (A14) (212) (io), 159 I/O, GCK8 (A15) (215) (io)
part B pins: 1 GND (power), 6 I/O, TDI (230) (io), 7 I/O, TCK (233) (io), 10 GND (power), 13 I/O, TMS (278) (io), 19 GND (power), 20 VCC (power), 29 GND (power), 38 O (M1) (434) (io), 39 GND (power), 40 I (M0) (437) (in), 41 VCC (power), 42 I (M2) (438) (in), 51 GND (power), 60 VCC (power), 61 GND (power), 70 GND (power), 79 GND (power), 80 DONE (io), 81 VCC (power), 82 ~{PROGRAM} (in), 91 GND (power), 100 VCC (power), 101 GND (power), 110 GND (power), 119 CCLK (io), 120 VCC (power), 121 O, TDO (0) (hiz), 122 GND (power), 131 GND (power), 141 GND (power), 142 VCC (power), 151 GND (power), 160 VCC (power)

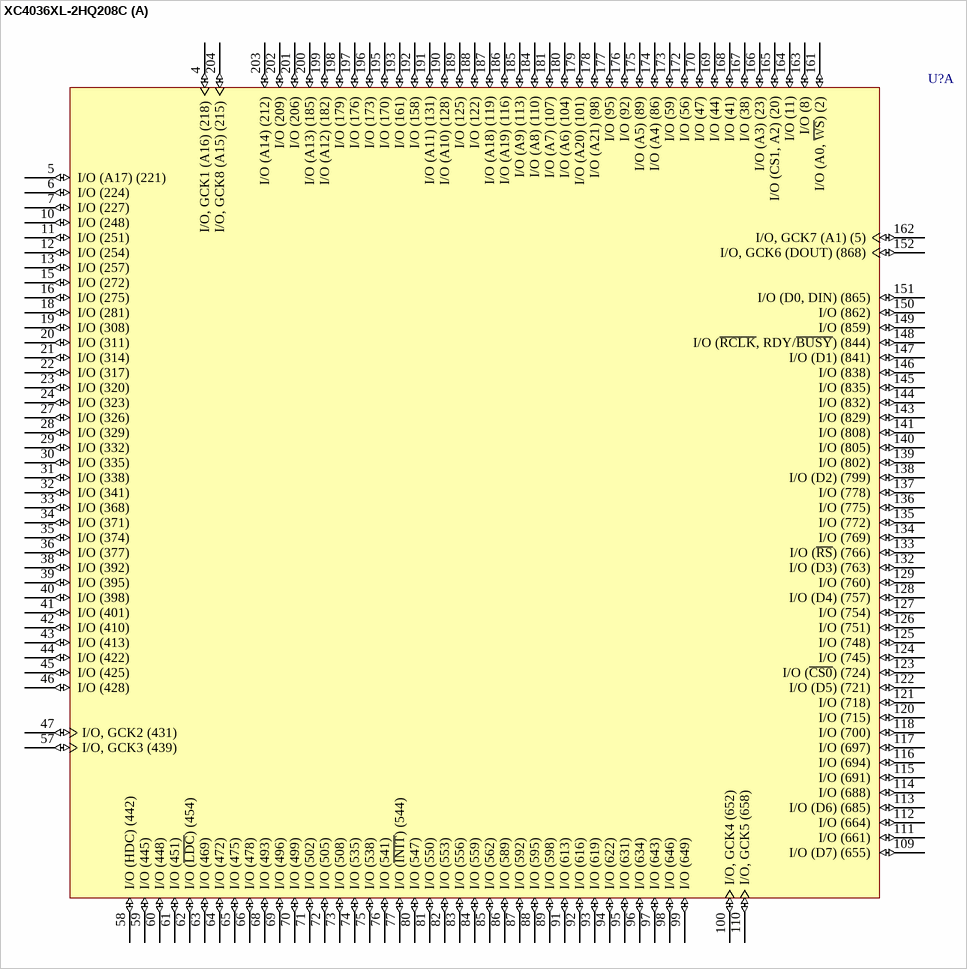
[diagram p279: symbol XC4036XL-2HQ208C]

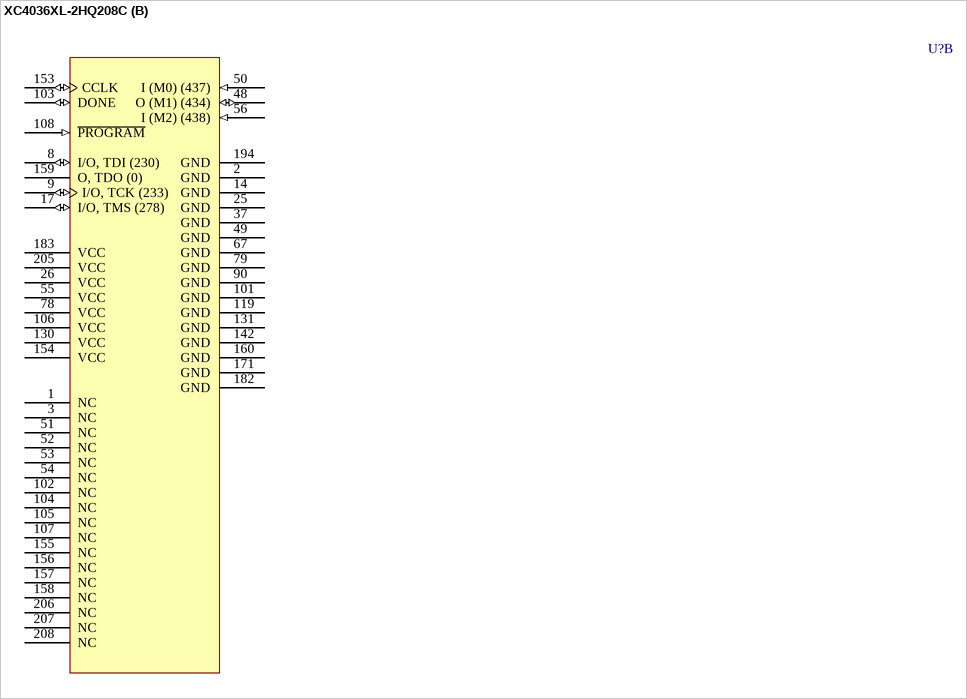
[diagram p280: symbol XC4036XL-2HQ208C]

## XC4036XL-2HQ208C
designator U?
XC4000XL FPGA, 160 I/Os, 208-Pin HQFP, Speed Grade 2, Commercial Grade; Published: 28-Feb-2003; LatestRevisionDate: 13-Apr-2006; LatestRevisionNote: IPC-7351 Footprint Added.; DatasheetVersion: ver1.6, May-1999; PackageVersion: ver1.2, Jun-2004; PackageReference: HQ208; Publisher: Altium Limited; PackageDescription: 208-Pin Heat Sink Quad Flat Pack (HQ208); Supplier 1: Digi-Key; Supplier Part Number 1: XC4036XL-2HQ208C-ND; Code_JEDEC: MS-029-FA-1; ComponentLink1Description: XC4000XL Datasheet; ComponentLink1URL: http://www.xilinx.com/support/documentation/data_sheets/4000.pdf; ComponentLink2Description: Discontinuation Notice; ComponentLink2URL: http://www.xilinx.com/support/documentation/customer_notices/pdn2004-21.pdf; ComponentLink3Description: HQ208 Package Drawing; ComponentLink3URL: http://www.xilinx.com/support/documentation/package_specs/hq208.pdf; ComponentLink4Description: XC4000 Documents; ComponentLink4URL: http://www.xilinx.com/support/documentation/xc4000.htm; ComponentLink5Description: Xilinx.com Home; ComponentLink5URL: http://www.xilinx.com
footprint HQ208_N (Shrink QFP, 208-Leads, Body 28x28mm, Pitch 0.5mm, IPC Medium Density)
footprint HQ208_L (Shrink QFP, 208-Leads, Body 28x28mm, Pitch 0.5mm, IPC High Density)
footprint HQ208_M (Shrink QFP, 208-Leads, Body 28x28mm, Pitch 0.5mm, IPC Low Density)
part A pins: 4 I/O, GCK1 (A16) (218) (io), 5 I/O (A17) (221) (io), 6 I/O (224) (io), 7 I/O (227) (io), 10 I/O (248) (io), 11 I/O (251) (io), 12 I/O (254) (io), 13 I/O (257) (io), 15 I/O (272) (io), 16 I/O (275) (io), 18 I/O (281) (io), 19 I/O (308) (io), 20 I/O (311) (io), 21 I/O (314) (io), 22 I/O (317) (io), 23 I/O (320) (io), 24 I/O (323) (io), 27 I/O (326) (io), 28 I/O (329) (io), 29 I/O (332) (io), 30 I/O (335) (io), 31 I/O (338) (io), 32 I/O (341) (io), 33 I/O (368) (io), 34 I/O (371) (io), 35 I/O (374) (io), 36 I/O (377) (io), 38 I/O (392) (io), 39 I/O (395) (io), 40 I/O (398) (io), 41 I/O (401) (io), 42 I/O (410) (io), 43 I/O (413) (io), 44 I/O (422) (io), 45 I/O (425) (io), 46 I/O (428) (io), 47 I/O, GCK2 (431) (io), 57 I/O, GCK3 (439) (io), 58 I/O (HDC) (442) (io), 59 I/O (445) (io), 60 I/O (448) (io), 61 I/O (451) (io), 62 I/O (~{LDC}) (454) (io), 63 I/O (469) (io), 64 I/O (472) (io), 65 I/O (475) (io), 66 I/O (478) (io), 68 I/O (493) (io), 69 I/O (496) (io), 70 I/O (499) (io), 71 I/O (502) (io), 72 I/O (505) (io), 73 I/O (508) (io), 74 I/O (535) (io), 75 I/O (538) (io), 76 I/O (541) (io), 77 I/O (~{INIT}) (544) (io), 80 I/O (547) (io), 81 I/O (550) (io), 82 I/O (553) (io), 83 I/O (556) (io), 84 I/O (559) (io), 85 I/O (562) (io), 86 I/O (589) (io), 87 I/O (592) (io), 88 I/O (595) (io), 89 I/O (598) (io), 91 I/O (613) (io), 92 I/O (616) (io), 93 I/O (619) (io), 94 I/O (622) (io), 95 I/O (631) (io), 96 I/O (634) (io), 97 I/O (643) (io), 98 I/O (646) (io), 99 I/O (649) (io), 100 I/O, GCK4 (652) (io), 109 I/O (D7) (655) (io), 110 I/O, GCK5 (658) (io), 111 I/O (661) (io), 112 I/O (664) (io), 113 I/O (D6) (685) (io), 114 I/O (688) (io), 115 I/O (691) (io), 116 I/O (694) (io), 117 I/O (697) (io), 118 I/O (700) (io), 120 I/O (715) (io), 121 I/O (718) (io), 122 I/O (D5) (721) (io), 123 I/O (~{CS0}) (724) (io), 124 I/O (745) (io), 125 I/O (748) (io), 126 I/O (751) (io), 127 I/O (754) (io), 128 I/O (D4) (757) (io), 129 I/O (760) (io), 132 I/O (D3) (763) (io), 133 I/O (~{RS}) (766) (io), 134 I/O (769) (io), 135 I/O (772) (io), 136 I/O (775) (io), 137 I/O (778) (io), 138 I/O (D2) (799) (io), 139 I/O (802) (io), 140 I/O (805) (io), 141 I/O (808) (io), 143 I/O (829) (io), 144 I/O (832) (io), 145 I/O (835) (io), 146 I/O (838) (io), 147 I/O (D1) (841) (io), 148 I/O (~{RCLK}, RDY/~{BUSY}) (844) (io), 149 I/O (859) (io), 150 I/O (862) (io), 151 I/O (D0, DIN) (865) (io), 152 I/O, GCK6 (DOUT) (868) (io), 161 I/O (A0, ~{WS}) (2) (io), 162 I/O, GCK7 (A1) (5) (io), 163 I/O (8) (io), 164 I/O (11) (io), 165 I/O (CS1, A2) (20) (io), 166 I/O (A3) (23) (io), 167 I/O (38) (io), 168 I/O (41) (io), 169 I/O (44) (io), 170 I/O (47) (io), 172 I/O (56) (io), 173 I/O (59) (io), 174 I/O (A4) (86) (io), 175 I/O (A5) (89) (io), 176 I/O (92) (io), 177 I/O (95) (io), 178 I/O (A21) (98) (io), 179 I/O (A20) (101) (io), 180 I/O (A6) (104) (io), 181 I/O (A7) (107) (io), 184 I/O (A8) (110) (io), 185 I/O (A9) (113) (io), 186 I/O (A19) (116) (io), 187 I/O (A18) (119) (io), 188 I/O (122) (io), 189 I/O (125) (io), 190 I/O (A10) (128) (io), 191 I/O (A11) (131) (io), 192 I/O (158) (io), 193 I/O (161) (io), 195 I/O (170) (io), 196 I/O (173) (io), 197 I/O (176) (io), 198 I/O (179) (io), 199 I/O (A12) (182) (io), 200 I/O (A13) (185) (io), 201 I/O (206) (io), 202 I/O (209) (io), 203 I/O (A14) (212) (io), 204 I/O, GCK8 (A15) (215) (io)
part B pins: 1 NC, 2 GND (power), 3 NC, 8 I/O, TDI (230) (io), 9 I/O, TCK (233) (io), 14 GND (power), 17 I/O, TMS (278) (io), 25 GND (power), 26 VCC (power), 37 GND (power), 48 O (M1) (434) (io), 49 GND (power), 50 I (M0) (437) (in), 51 NC, 52 NC, 53 NC, 54 NC, 55 VCC (power), 56 I (M2) (438) (in), 67 GND (power), 78 VCC (power), 79 GND (power), 90 GND (power), 101 GND (power), 102 NC, 103 DONE (io), 104 NC, 105 NC, 106 VCC (power), 107 NC, 108 ~{PROGRAM} (in), 119 GND (power), 130 VCC (power), 131 GND (power), 142 GND (power), 153 CCLK (io), 154 VCC (power), 155 NC, 156 NC, 157 NC, 158 NC, 159 O, TDO (0) (hiz), 160 GND (power), 171 GND (power), 182 GND (power), 183 VCC (power), 194 GND (power), 205 VCC (power), 206 NC, 207 NC, 208 NC

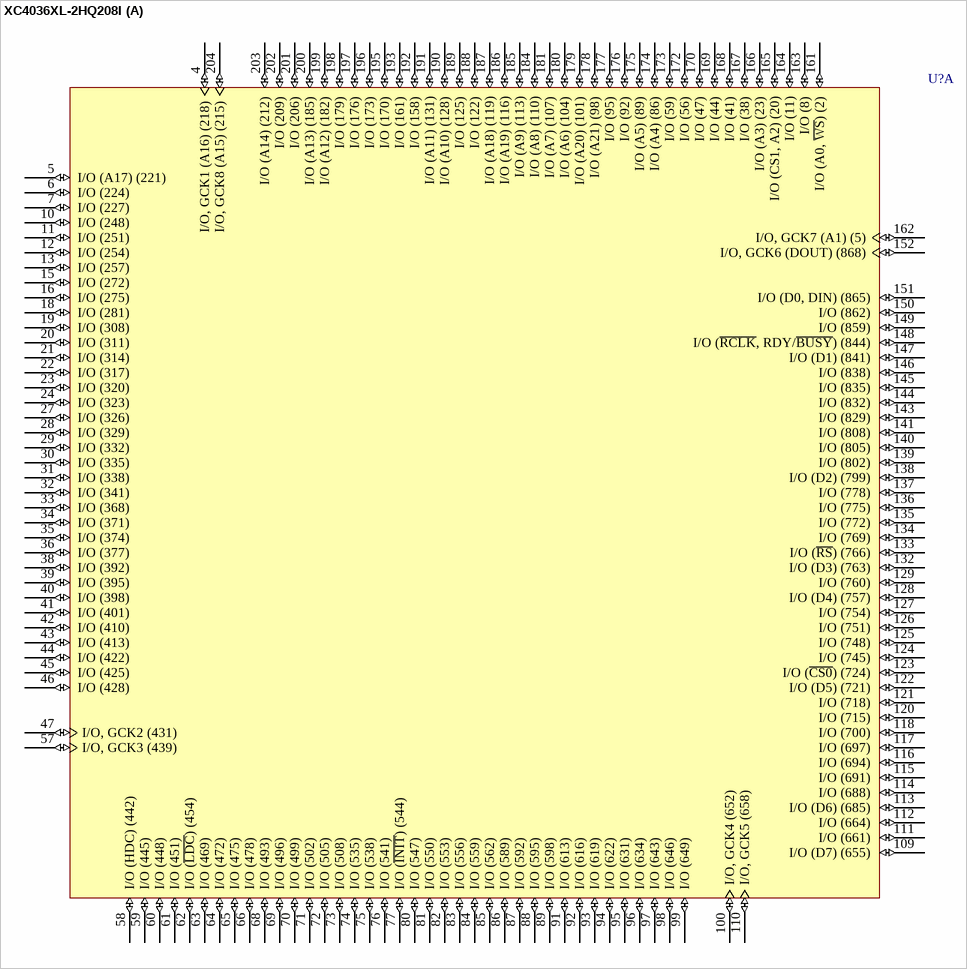
[diagram p281: symbol XC4036XL-2HQ208I]

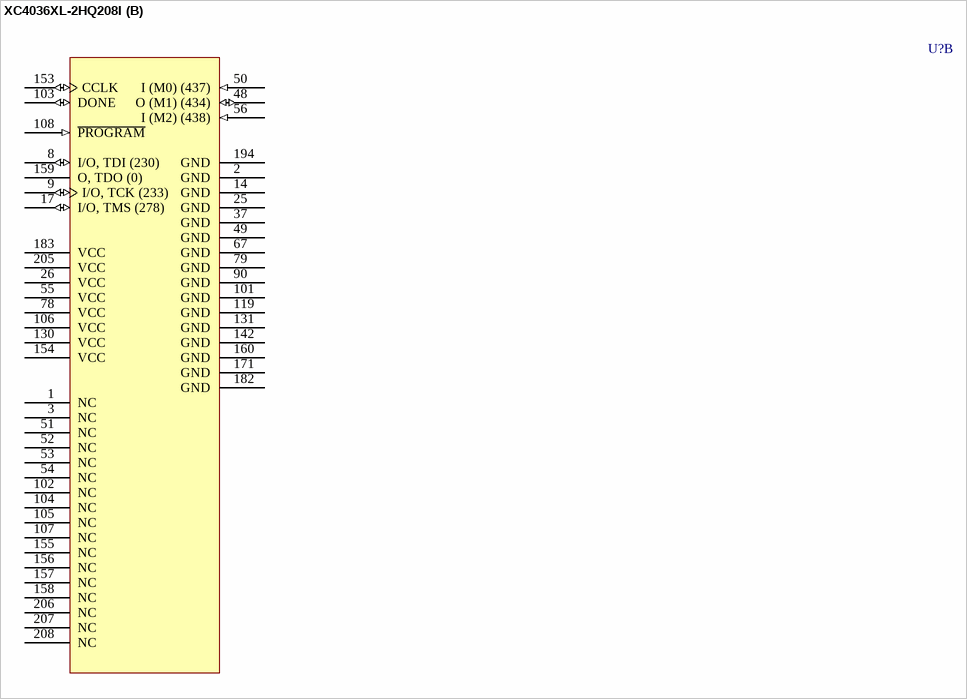
[diagram p282: symbol XC4036XL-2HQ208I]

## XC4036XL-2HQ208I
designator U?
XC4000XL FPGA, 160 I/Os, 208-Pin HQFP, Speed Grade 2, Industrial Grade; Published: 28-Feb-2003; LatestRevisionDate: 13-Apr-2006; LatestRevisionNote: IPC-7351 Footprint Added.; DatasheetVersion: ver1.6, May-1999; PackageVersion: ver1.2, Jun-2004; PackageReference: HQ208; Publisher: Altium Limited; PackageDescription: 208-Pin Heat Sink Quad Flat Pack (HQ208); Supplier 1: Digi-Key; Supplier Part Number 1: XC4036XL-2HQ208I-ND; Code_JEDEC: MS-029-FA-1; ComponentLink1Description: XC4000XL Datasheet; ComponentLink1URL: http://www.xilinx.com/support/documentation/data_sheets/4000.pdf; ComponentLink2Description: Discontinuation Notice; ComponentLink2URL: http://www.xilinx.com/support/documentation/customer_notices/pdn2004-21.pdf; ComponentLink3Description: HQ208 Package Drawing; ComponentLink3URL: http://www.xilinx.com/support/documentation/package_specs/hq208.pdf; ComponentLink4Description: XC4000 Documents; ComponentLink4URL: http://www.xilinx.com/support/documentation/xc4000.htm; ComponentLink5Description: Xilinx.com Home; ComponentLink5URL: http://www.xilinx.com
footprint HQ208_N (Shrink QFP, 208-Leads, Body 28x28mm, Pitch 0.5mm, IPC Medium Density)
footprint HQ208_L (Shrink QFP, 208-Leads, Body 28x28mm, Pitch 0.5mm, IPC High Density)
footprint HQ208_M (Shrink QFP, 208-Leads, Body 28x28mm, Pitch 0.5mm, IPC Low Density)
part A pins: 4 I/O, GCK1 (A16) (218) (io), 5 I/O (A17) (221) (io), 6 I/O (224) (io), 7 I/O (227) (io), 10 I/O (248) (io), 11 I/O (251) (io), 12 I/O (254) (io), 13 I/O (257) (io), 15 I/O (272) (io), 16 I/O (275) (io), 18 I/O (281) (io), 19 I/O (308) (io), 20 I/O (311) (io), 21 I/O (314) (io), 22 I/O (317) (io), 23 I/O (320) (io), 24 I/O (323) (io), 27 I/O (326) (io), 28 I/O (329) (io), 29 I/O (332) (io), 30 I/O (335) (io), 31 I/O (338) (io), 32 I/O (341) (io), 33 I/O (368) (io), 34 I/O (371) (io), 35 I/O (374) (io), 36 I/O (377) (io), 38 I/O (392) (io), 39 I/O (395) (io), 40 I/O (398) (io), 41 I/O (401) (io), 42 I/O (410) (io), 43 I/O (413) (io), 44 I/O (422) (io), 45 I/O (425) (io), 46 I/O (428) (io), 47 I/O, GCK2 (431) (io), 57 I/O, GCK3 (439) (io), 58 I/O (HDC) (442) (io), 59 I/O (445) (io), 60 I/O (448) (io), 61 I/O (451) (io), 62 I/O (~{LDC}) (454) (io), 63 I/O (469) (io), 64 I/O (472) (io), 65 I/O (475) (io), 66 I/O (478) (io), 68 I/O (493) (io), 69 I/O (496) (io), 70 I/O (499) (io), 71 I/O (502) (io), 72 I/O (505) (io), 73 I/O (508) (io), 74 I/O (535) (io), 75 I/O (538) (io), 76 I/O (541) (io), 77 I/O (~{INIT}) (544) (io), 80 I/O (547) (io), 81 I/O (550) (io), 82 I/O (553) (io), 83 I/O (556) (io), 84 I/O (559) (io), 85 I/O (562) (io), 86 I/O (589) (io), 87 I/O (592) (io), 88 I/O (595) (io), 89 I/O (598) (io), 91 I/O (613) (io), 92 I/O (616) (io), 93 I/O (619) (io), 94 I/O (622) (io), 95 I/O (631) (io), 96 I/O (634) (io), 97 I/O (643) (io), 98 I/O (646) (io), 99 I/O (649) (io), 100 I/O, GCK4 (652) (io), 109 I/O (D7) (655) (io), 110 I/O, GCK5 (658) (io), 111 I/O (661) (io), 112 I/O (664) (io), 113 I/O (D6) (685) (io), 114 I/O (688) (io), 115 I/O (691) (io), 116 I/O (694) (io), 117 I/O (697) (io), 118 I/O (700) (io), 120 I/O (715) (io), 121 I/O (718) (io), 122 I/O (D5) (721) (io), 123 I/O (~{CS0}) (724) (io), 124 I/O (745) (io), 125 I/O (748) (io), 126 I/O (751) (io), 127 I/O (754) (io), 128 I/O (D4) (757) (io), 129 I/O (760) (io), 132 I/O (D3) (763) (io), 133 I/O (~{RS}) (766) (io), 134 I/O (769) (io), 135 I/O (772) (io), 136 I/O (775) (io), 137 I/O (778) (io), 138 I/O (D2) (799) (io), 139 I/O (802) (io), 140 I/O (805) (io), 141 I/O (808) (io), 143 I/O (829) (io), 144 I/O (832) (io), 145 I/O (835) (io), 146 I/O (838) (io), 147 I/O (D1) (841) (io), 148 I/O (~{RCLK}, RDY/~{BUSY}) (844) (io), 149 I/O (859) (io), 150 I/O (862) (io), 151 I/O (D0, DIN) (865) (io), 152 I/O, GCK6 (DOUT) (868) (io), 161 I/O (A0, ~{WS}) (2) (io), 162 I/O, GCK7 (A1) (5) (io), 163 I/O (8) (io), 164 I/O (11) (io), 165 I/O (CS1, A2) (20) (io), 166 I/O (A3) (23) (io), 167 I/O (38) (io), 168 I/O (41) (io), 169 I/O (44) (io), 170 I/O (47) (io), 172 I/O (56) (io), 173 I/O (59) (io), 174 I/O (A4) (86) (io), 175 I/O (A5) (89) (io), 176 I/O (92) (io), 177 I/O (95) (io), 178 I/O (A21) (98) (io), 179 I/O (A20) (101) (io), 180 I/O (A6) (104) (io), 181 I/O (A7) (107) (io), 184 I/O (A8) (110) (io), 185 I/O (A9) (113) (io), 186 I/O (A19) (116) (io), 187 I/O (A18) (119) (io), 188 I/O (122) (io), 189 I/O (125) (io), 190 I/O (A10) (128) (io), 191 I/O (A11) (131) (io), 192 I/O (158) (io), 193 I/O (161) (io), 195 I/O (170) (io), 196 I/O (173) (io), 197 I/O (176) (io), 198 I/O (179) (io), 199 I/O (A12) (182) (io), 200 I/O (A13) (185) (io), 201 I/O (206) (io), 202 I/O (209) (io), 203 I/O (A14) (212) (io), 204 I/O, GCK8 (A15) (215) (io)
part B pins: 1 NC, 2 GND (power), 3 NC, 8 I/O, TDI (230) (io), 9 I/O, TCK (233) (io), 14 GND (power), 17 I/O, TMS (278) (io), 25 GND (power), 26 VCC (power), 37 GND (power), 48 O (M1) (434) (io), 49 GND (power), 50 I (M0) (437) (in), 51 NC, 52 NC, 53 NC, 54 NC, 55 VCC (power), 56 I (M2) (438) (in), 67 GND (power), 78 VCC (power), 79 GND (power), 90 GND (power), 101 GND (power), 102 NC, 103 DONE (io), 104 NC, 105 NC, 106 VCC (power), 107 NC, 108 ~{PROGRAM} (in), 119 GND (power), 130 VCC (power), 131 GND (power), 142 GND (power), 153 CCLK (io), 154 VCC (power), 155 NC, 156 NC, 157 NC, 158 NC, 159 O, TDO (0) (hiz), 160 GND (power), 171 GND (power), 182 GND (power), 183 VCC (power), 194 GND (power), 205 VCC (power), 206 NC, 207 NC, 208 NC

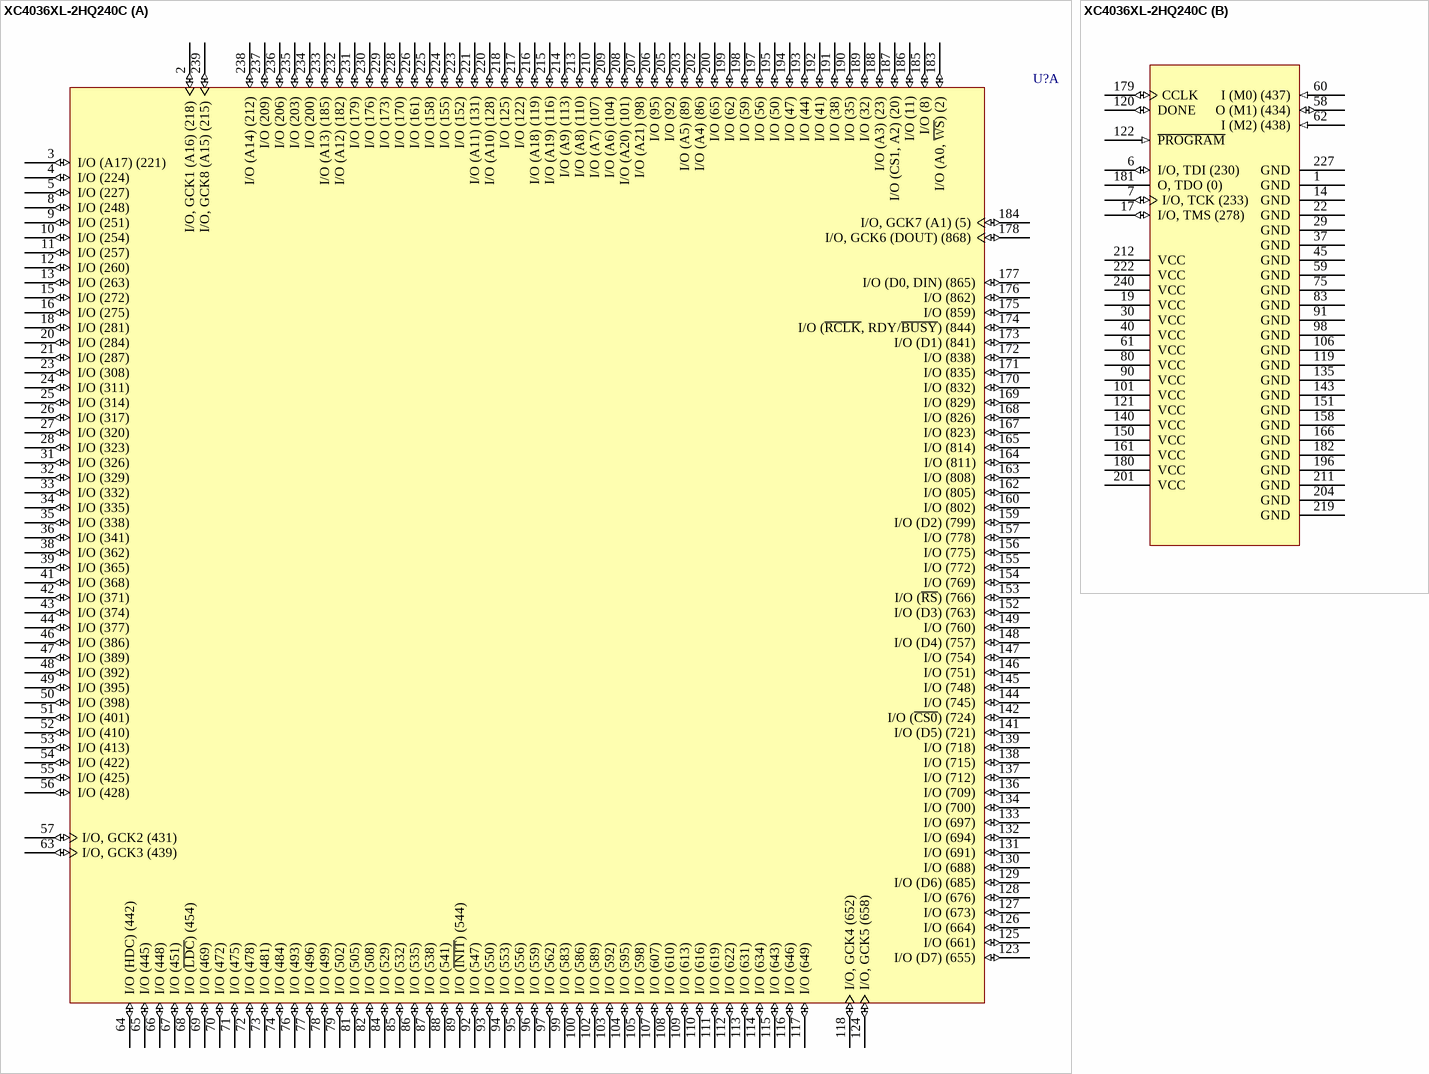
[diagram p283: symbol XC4036XL-2HQ240C]

## XC4036XL-2HQ240C
designator U?
XC4000XL FPGA, 193 I/Os, 240-Pin HQFP, Speed Grade 2, Commercial Grade; Published: 28-Feb-2003; LatestRevisionDate: 13-Apr-2006; LatestRevisionNote: IPC-7351 Footprint Added.; DatasheetVersion: ver1.6, May-1999; PackageVersion: ver1.2, Jun-2004; PackageReference: HQ240; Publisher: Altium Limited; PackageDescription: 240-Pin Heat Sink Quad Flat Pack (HQ240); Supplier 1: Digi-Key; Supplier Part Number 1: 122-1130-ND; Code_JEDEC: MO-143-GA; ComponentLink1Description: XC4000XL Datasheet; ComponentLink1URL: http://www.xilinx.com/support/documentation/data_sheets/4000.pdf; ComponentLink2Description: Discontinuation Notice; ComponentLink2URL: http://www.xilinx.com/support/documentation/customer_notices/pdn2004-21.pdf; ComponentLink3Description: HQ240 Package Drawing; ComponentLink3URL: http://www.xilinx.com/support/documentation/package_specs/hq240.pdf; ComponentLink4Description: XC4000 Documents; ComponentLink4URL: http://www.xilinx.com/support/documentation/xc4000.htm; ComponentLink5Description: Xilinx.com Home; ComponentLink5URL: http://www.xilinx.com
footprint HQ240_N (Shrink QFP, 240-Leads, Body 32x32mm, Pitch 0.5mm, IPC Medium Density)
footprint HQ240_L (Shrink QFP, 240-Leads, Body 32x32mm, Pitch 0.5mm, IPC High Density)
footprint HQ240_M (Shrink QFP, 240-Leads, Body 32x32mm, Pitch 0.5mm, IPC Low Density)
part A pins: 2 I/O, GCK1 (A16) (218) (io), 3 I/O (A17) (221) (io), 4 I/O (224) (io), 5 I/O (227) (io), 8 I/O (248) (io), 9 I/O (251) (io), 10 I/O (254) (io), 11 I/O (257) (io), 12 I/O (260) (io), 13 I/O (263) (io), 15 I/O (272) (io), 16 I/O (275) (io), 18 I/O (281) (io), 20 I/O (284) (io), 21 I/O (287) (io), 23 I/O (308) (io), 24 I/O (311) (io), 25 I/O (314) (io), 26 I/O (317) (io), 27 I/O (320) (io), 28 I/O (323) (io), 31 I/O (326) (io), 32 I/O (329) (io), 33 I/O (332) (io), 34 I/O (335) (io), 35 I/O (338) (io), 36 I/O (341) (io), 38 I/O (362) (io), 39 I/O (365) (io), 41 I/O (368) (io), 42 I/O (371) (io), 43 I/O (374) (io), 44 I/O (377) (io), 46 I/O (386) (io), 47 I/O (389) (io), 48 I/O (392) (io), 49 I/O (395) (io), 50 I/O (398) (io), 51 I/O (401) (io), 52 I/O (410) (io), 53 I/O (413) (io), 54 I/O (422) (io), 55 I/O (425) (io), 56 I/O (428) (io), 57 I/O, GCK2 (431) (io), 63 I/O, GCK3 (439) (io), 64 I/O (HDC) (442) (io), 65 I/O (445) (io), 66 I/O (448) (io), 67 I/O (451) (io), 68 I/O (~{LDC}) (454) (io), 69 I/O (469) (io), 70 I/O (472) (io), 71 I/O (475) (io), 72 I/O (478) (io), 73 I/O (481) (io), 74 I/O (484) (io), 76 I/O (493) (io), 77 I/O (496) (io), 78 I/O (499) (io), 79 I/O (502) (io), 81 I/O (505) (io), 82 I/O (508) (io), 84 I/O (529) (io), 85 I/O (532) (io), 86 I/O (535) (io), 87 I/O (538) (io), 88 I/O (541) (io), 89 I/O (~{INIT}) (544) (io), 92 I/O (547) (io), 93 I/O (550) (io), 94 I/O (553) (io), 95 I/O (556) (io), 96 I/O (559) (io), 97 I/O (562) (io), 99 I/O (583) (io), 100 I/O (586) (io), 102 I/O (589) (io), 103 I/O (592) (io), 104 I/O (595) (io), 105 I/O (598) (io), 107 I/O (607) (io), 108 I/O (610) (io), 109 I/O (613) (io), 110 I/O (616) (io), 111 I/O (619) (io), 112 I/O (622) (io), 113 I/O (631) (io), 114 I/O (634) (io), 115 I/O (643) (io), 116 I/O (646) (io), 117 I/O (649) (io), 118 I/O, GCK4 (652) (io), 123 I/O (D7) (655) (io), 124 I/O, GCK5 (658) (io), 125 I/O (661) (io), 126 I/O (664) (io), 127 I/O (673) (io), 128 I/O (676) (io), 129 I/O (D6) (685) (io), 130 I/O (688) (io), 131 I/O (691) (io), 132 I/O (694) (io), 133 I/O (697) (io), 134 I/O (700) (io), 136 I/O (709) (io), 137 I/O (712) (io), 138 I/O (715) (io), 139 I/O (718) (io), 141 I/O (D5) (721) (io), 142 I/O (~{CS0}) (724) (io), 144 I/O (745) (io), 145 I/O (748) (io), 146 I/O (751) (io), 147 I/O (754) (io), 148 I/O (D4) (757) (io), 149 I/O (760) (io), 152 I/O (D3) (763) (io), 153 I/O (~{RS}) (766) (io), 154 I/O (769) (io), 155 I/O (772) (io), 156 I/O (775) (io), 157 I/O (778) (io), 159 I/O (D2) (799) (io), 160 I/O (802) (io), 162 I/O (805) (io), 163 I/O (808) (io), 164 I/O (811) (io), 165 I/O (814) (io), 167 I/O (823) (io), 168 I/O (826) (io), 169 I/O (829) (io), 170 I/O (832) (io), 171 I/O (835) (io), 172 I/O (838) (io), 173 I/O (D1) (841) (io), 174 I/O (~{RCLK}, RDY/~{BUSY}) (844) (io), 175 I/O (859) (io), 176 I/O (862) (io), 177 I/O (D0, DIN) (865) (io), 178 I/O, GCK6 (DOUT) (868) (io), 183 I/O (A0, ~{WS}) (2) (io), 184 I/O, GCK7 (A1) (5) (io), 185 I/O (8) (io), 186 I/O (11) (io), 187 I/O (CS1, A2) (20) (io), 188 I/O (A3) (23) (io), 189 I/O (32) (io), 190 I/O (35) (io), 191 I/O (38) (io), 192 I/O (41) (io), 193 I/O (44) (io), 194 I/O (47) (io), 195 I/O (50) (io), 197 I/O (56) (io), 198 I/O (59) (io), 199 I/O (62) (io), 200 I/O (65) (io), 202 I/O (A4) (86) (io), 203 I/O (A5) (89) (io), 205 I/O (92) (io), 206 I/O (95) (io), 207 I/O (A21) (98) (io), 208 I/O (A20) (101) (io), 209 I/O (A6) (104) (io), 210 I/O (A7) (107) (io), 213 I/O (A8) (110) (io), 214 I/O (A9) (113) (io), 215 I/O (A19) (116) (io), 216 I/O (A18) (119) (io), 217 I/O (122) (io), 218 I/O (125) (io), 220 I/O (A10) (128) (io), 221 I/O (A11) (131) (io), 223 I/O (152) (io), 224 I/O (155) (io), 225 I/O (158) (io), 226 I/O (161) (io), 228 I/O (170) (io), 229 I/O (173) (io), 230 I/O (176) (io), 231 I/O (179) (io), 232 I/O (A12) (182) (io), 233 I/O (A13) (185) (io), 234 I/O (200) (io), 235 I/O (203) (io), 236 I/O (206) (io), 237 I/O (209) (io), 238 I/O (A14) (212) (io), 239 I/O, GCK8 (A15) (215) (io)
part B pins: 1 GND (power), 6 I/O, TDI (230) (io), 7 I/O, TCK (233) (io), 14 GND (power), 17 I/O, TMS (278) (io), 19 VCC (power), 22 GND (power), 29 GND (power), 30 VCC (power), 37 GND (power), 40 VCC (power), 45 GND (power), 58 O (M1) (434) (io), 59 GND (power), 60 I (M0) (437) (in), 61 VCC (power), 62 I (M2) (438) (in), 75 GND (power), 80 VCC (power), 83 GND (power), 90 VCC (power), 91 GND (power), 98 GND (power), 101 VCC (power), 106 GND (power), 119 GND (power), 120 DONE (io), 121 VCC (power), 122 ~{PROGRAM} (in), 135 GND (power), 140 VCC (power), 143 GND (power), 150 VCC (power), 151 GND (power), 158 GND (power), 161 VCC (power), 166 GND (power), 179 CCLK (io), 180 VCC (power), 181 O, TDO (0) (hiz), 182 GND (power), 196 GND (power), 201 VCC (power), 204 GND (power), 211 GND (power), 212 VCC (power), 219 GND (power), 222 VCC (power), 227 GND (power), 240 VCC (power)

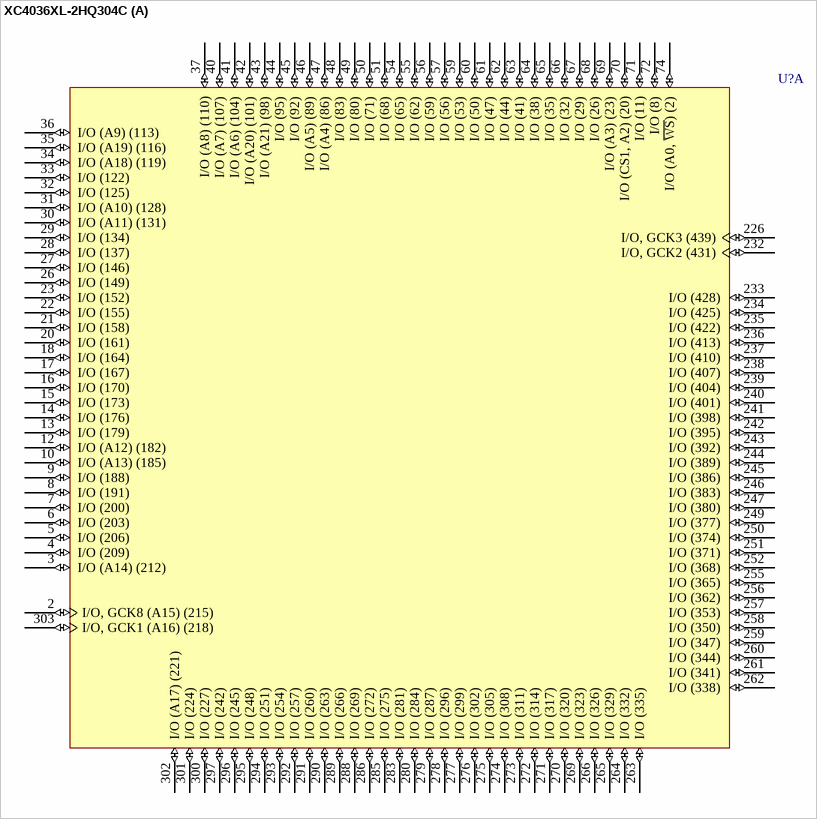
[diagram p284: symbol XC4036XL-2HQ304C]

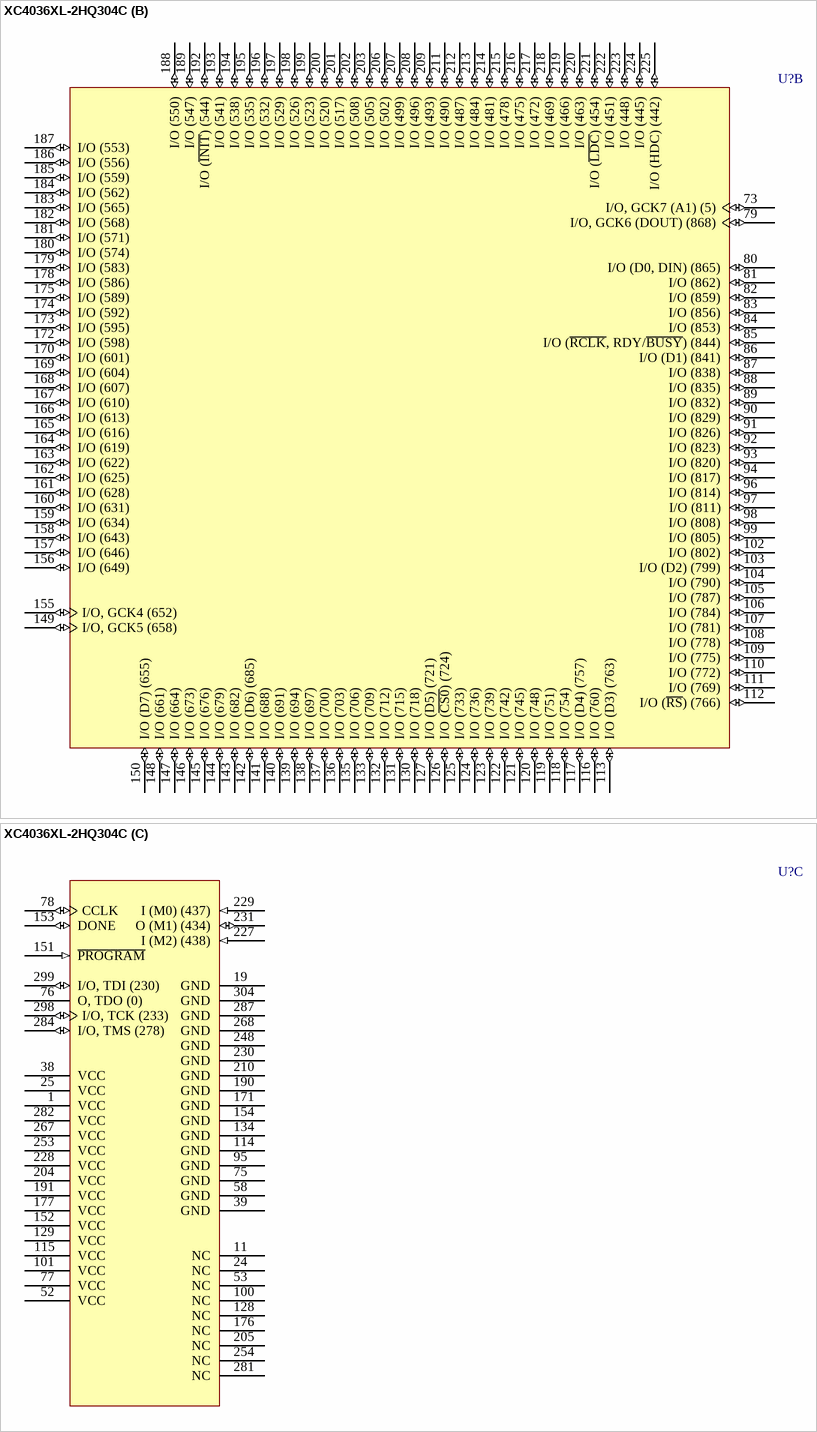
[diagram p285: symbol XC4036XL-2HQ304C]